# Altium schematic symbol library SamacSys.SchLib: 1281 symbols (part 4 of 13)
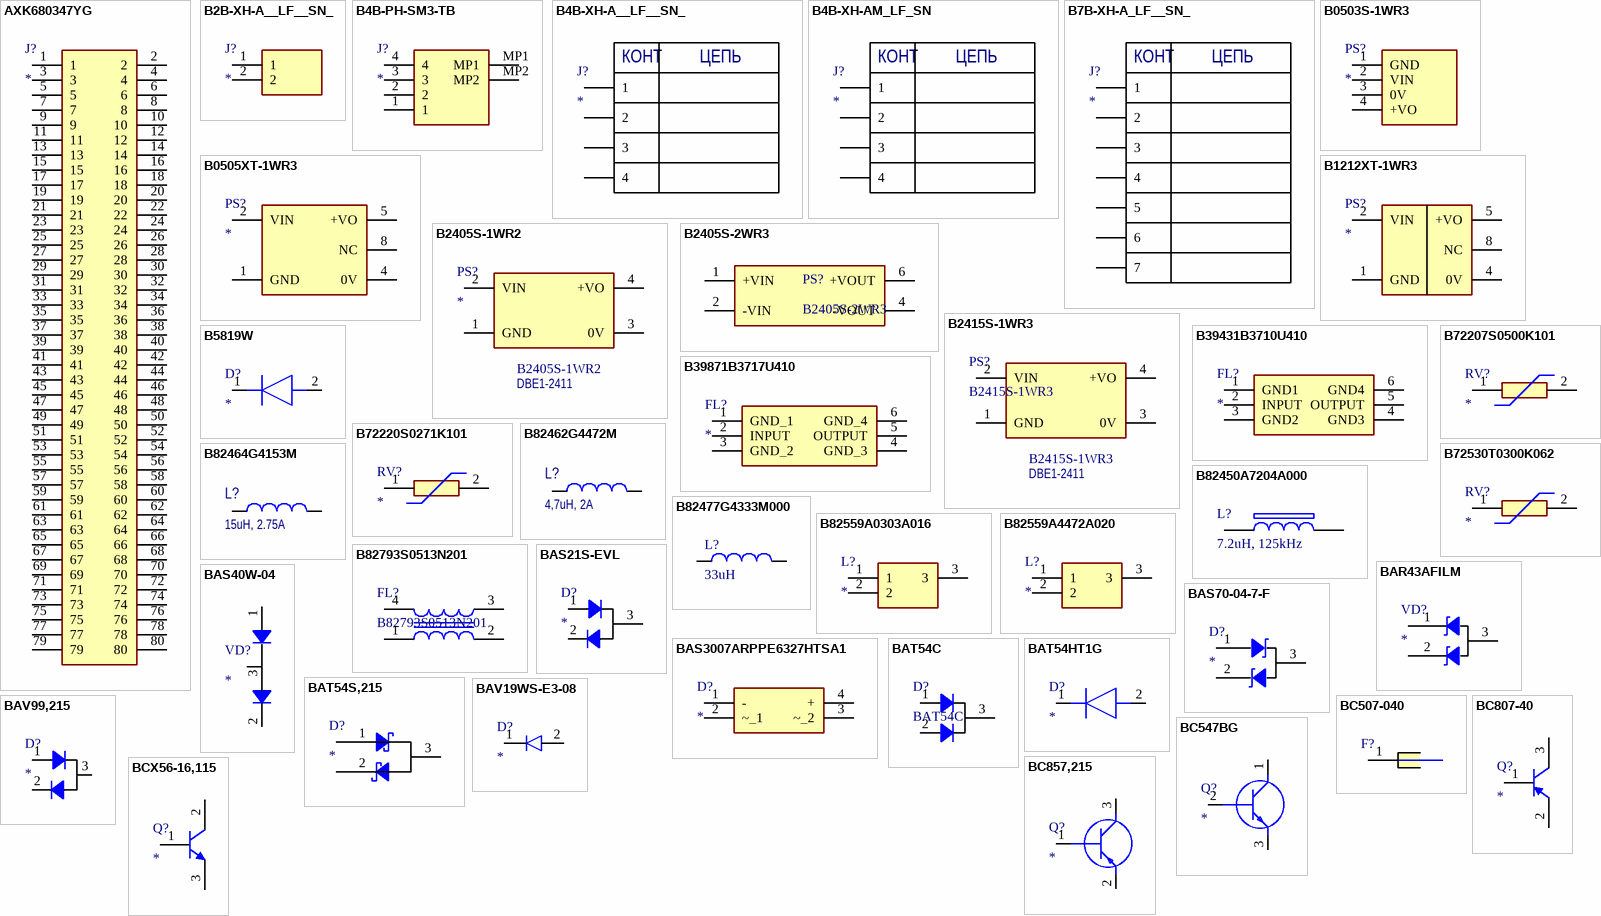
[diagram p50: symbols AXK680347YG to BCX56-16,115]

## BCX56-16,115
designator Q?
Transistor BJT NPN; Manufacturer_Name: Nexperia; Manufacturer_Part_Number: BCX56-16,115; Datasheet Link: https://assets.nexperia.com/documents/data-sheet/BCP56_BCX56_BC56PA.pdf; Height: 1.6mm; Mouser Part Number: 771-BCX56-16-T/R; Mouser Price/Stock: https://www.mouser.co.uk/ProductDetail/Nexperia/BCX56-16115?qs=me8TqzrmIYU4FJsNQLPFaA%3D%3D; Arrow Part Number: BCX56-16,115; Arrow Price/Stock: https://www.arrow.com/en/products/bcx56-16115/nexperia?utm_currency=USD&region=nac
footprint BCX5616115; pin to pad 2>2+4
pins: 1 B, 2 E, 3 C

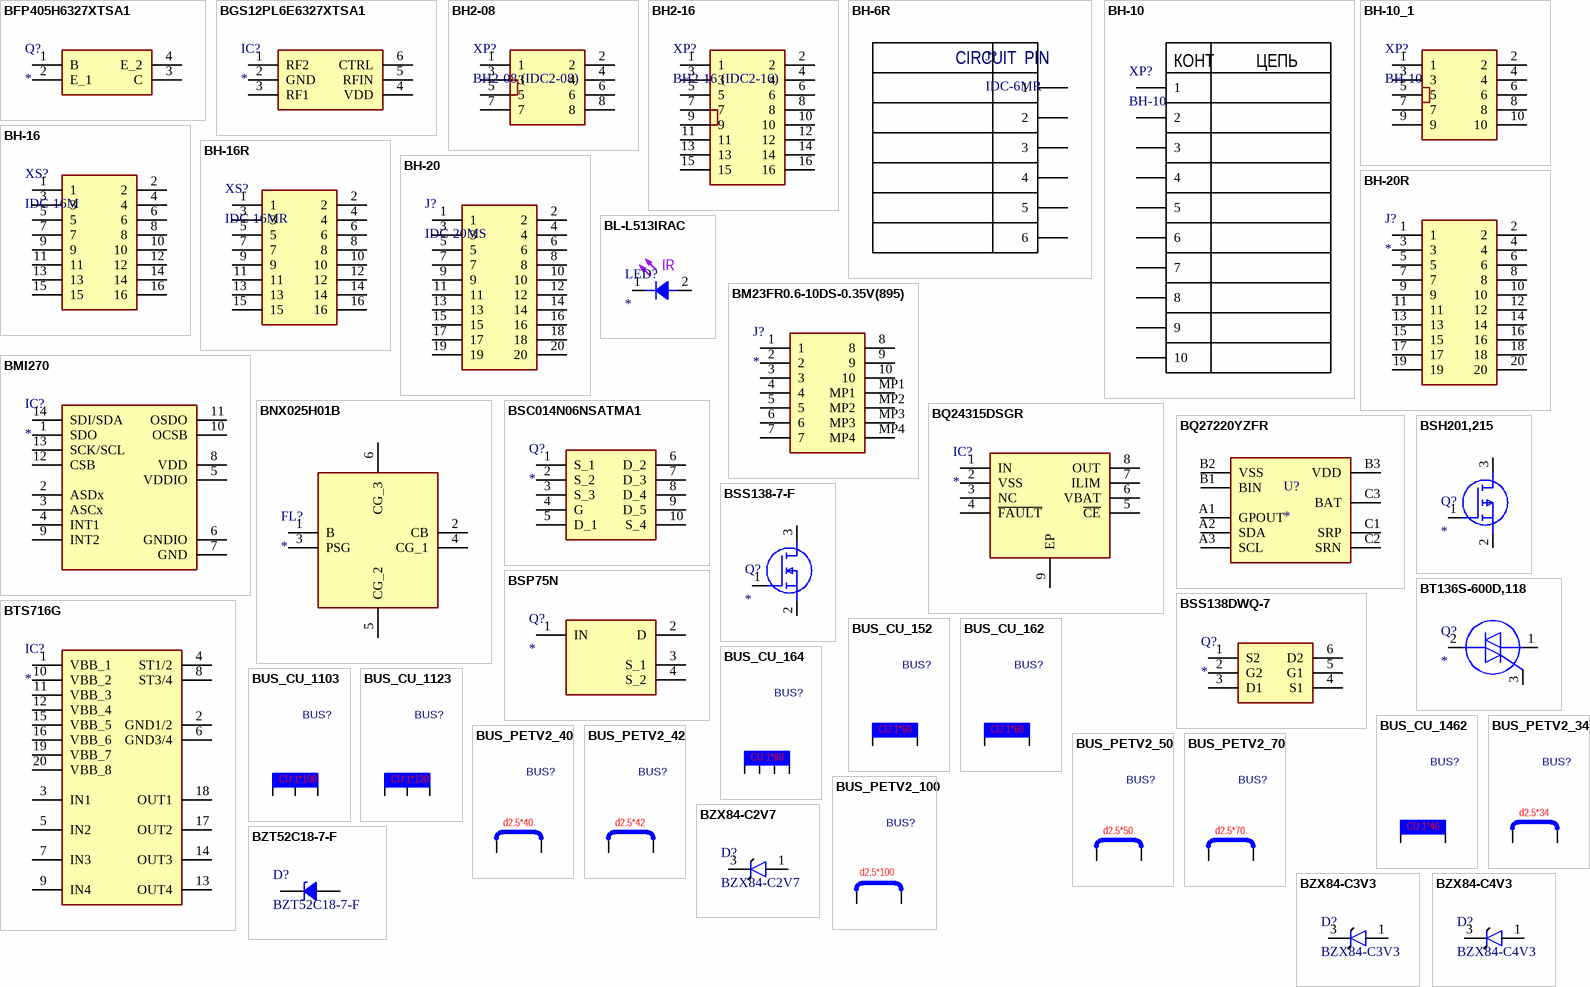
[diagram p10: symbols BFP405H6327XTSA1 to BZX84-C4V3]

## BFP405H6327XTSA1
designator Q?
Transistor BJT NPN; Manufacturer_Name: Infineon; Manufacturer_Part_Number: BFP405H6327XTSA1; Datasheet Link: https://www.infineon.com/dgdl/Infineon-BFP405-DS-v02_00-EN.pdf?fileId=5546d462689a790c01690f03150a390c; Height: 1mm; Mouser Part Number: 726-BFP405H6327XTSA1; Mouser Price/Stock: https://www.mouser.co.uk/ProductDetail/Infineon-Technologies/BFP405H6327XTSA1?qs=K00xGehIlju6mN4yU4aHPg%3D%3D; Arrow Part Number: BFP405H6327XTSA1; Arrow Price/Stock: https://www.arrow.com/en/products/bfp405h6327xtsa1/infineon-technologies-ag?region=nac
footprint BFP405H6327XTSA1
pins: 1 B, 2 E_1, 3 C, 4 E_2

## BGS12PL6E6327XTSA1
designator IC?
Integrated Circuit; Manufacturer_Name: Infineon; Manufacturer_Part_Number: BGS12PL6E6327XTSA1; Datasheet Link: https://4donline.ihs.com/images/VipMasterIC/IC/INFN/INFNS27431/INFNS27431-1.pdf?hkey=6D3A4C79FDBF58556ACFDE234799DDF0; Height: 0.32mm; Mouser Part Number: 726-BGS12PL6E6327XTS; Mouser Price/Stock: https://www.mouser.co.uk/ProductDetail/Infineon-Technologies/BGS12PL6E6327XTSA1?qs=J4%252BvTxtW28%252BQInE9vWfIng%3D%3D; Arrow Part Number: BGS12PL6E6327XTSA1; Arrow Price/Stock: https://www.arrow.com/en/products/bgs12pl6e6327xtsa1/infineon-technologies-ag?region=nac
footprint BGS12PL6E6327XTSA1
pins: 1 RF2, 2 GND, 3 RF1, 4 VDD, 5 RFIN, 6 CTRL

## BH2-08
designator XP?, comment BH2-08 (IDC2-08)
Connector; Manufacturer_Name: Connfly; Manufacturer_Part_Number: DS1014-08; Manufacturer_Part_Number_1: IDC2-08MS; Datasheet Link: https://static.chipdip.ru/lib/463/DOC002463525.pdf; System: Connector
footprint BH2-08 (Footprint not found)
pins: 1, 2, 3, 4, 5, 6, 7, 8

## BH2-16
designator XP?, comment BH2-16 (IDC2-16)
Connector; Manufacturer_Name: Connfly; Manufacturer_Part_Number: DS1014-16; Manufacturer_Part_Number_1: IDC2-16MS; Datasheet Link: https://static.chipdip.ru/lib/463/DOC002463525.pdf; System: Connector
footprint BH2-16 (Footprint not found)
pins: 1, 2, 3, 4, 5, 6, 7, 8, 9, 10, 11, 12, 13, 14, 15, 16

## BH-6R
designator J?, comment IDC-6MR
Connector IDC; Manufacturer_Name: Connfly; Datasheet Link: https://www.molex.com/pdm_docs/sd/901303106_sd.pdf
footprint BH-6R (IDC Connector, 6 pin)
pins: 1, 2, 3, 4, 5, 6
text: CIRCUIT; PIN

## BH-10
designator XP?
Connector; Manufacturer_Name: Connfly; Manufacturer_Part_Number: DS1013-10S; Manufacturer_Part_Number_1: IDC-10MS; Datasheet Link: https://static.chipdip.ru/lib/463/DOC002463525.pdf; System: Connector
footprint BH-10
pins: 1, 2, 3, 4, 5, 6, 7, 8, 9, 10
text: КОНТ; ЦЕПЬ

## BH-10_1
designator XP?, comment BH-10
Connector; Manufacturer_Name: Connfly; Manufacturer_Part_Number: DS1013-10S; Manufacturer_Part_Number_1: IDC-10MS; Datasheet Link: https://static.chipdip.ru/lib/463/DOC002463525.pdf; System: Connector
footprint BH-10
pins: 1, 2, 3, 4, 5, 6, 7, 8, 9, 10

## BH-16
designator XS?, comment IDC-16M
Connector; Manufacturer_Name: SAMTEC; Manufacturer_Part_Number: HTST-108-01-L-DV-P-TR; Datasheet Link: http://suddendocs.samtec.com/prints/htst-1xx-01-xx-dv-xx-xx-mkt.pdf; Mouser Part Number: 200-HTST10801LDVPTR; Mouser Price/Stock: https://www.mouser.co.uk/ProductDetail/Samtec/HTST-108-01-L-DV-P-TR?qs=Cqqh%252BS766wmBS1cbpEk87Q%3D%3D; Arrow Part Number: HTST-108-01-L-DV-P-TR; Arrow Price/Stock: https://www.arrow.com/en/products/htst-108-01-l-dv-p-tr/samtec?utm_currency=USD&region=nac
pins: 1, 2, 3, 4, 5, 6, 7, 8, 9, 10, 11, 12, 13, 14, 15, 16

## BH-16R
designator XS?, comment IDC-16MR
Connector; Manufacturer_Name: SAMTEC; Manufacturer_Part_Number: HTST-108-01-L-DV-P-TR; Datasheet Link: http://suddendocs.samtec.com/prints/htst-1xx-01-xx-dv-xx-xx-mkt.pdf; Mouser Part Number: 200-HTST10801LDVPTR; Mouser Price/Stock: https://www.mouser.co.uk/ProductDetail/Samtec/HTST-108-01-L-DV-P-TR?qs=Cqqh%252BS766wmBS1cbpEk87Q%3D%3D; Arrow Part Number: HTST-108-01-L-DV-P-TR; Arrow Price/Stock: https://www.arrow.com/en/products/htst-108-01-l-dv-p-tr/samtec?utm_currency=USD&region=nac
footprint BH-16R
pins: 1, 2, 3, 4, 5, 6, 7, 8, 9, 10, 11, 12, 13, 14, 15, 16

## BH-20
designator J?, comment IDC-20MS
Connector IDC; Manufacturer_Name: Connfly; Manufacturer_Part_Number: BH-20R; Datasheet Link: https://static.chipdip.ru/lib/463/DOC002463525.pdf; Height: 9.48mm
footprint SHDR20W69P254X254_2X10_3300X910X955P
pins: 1, 2, 3, 4, 5, 6, 7, 8, 9, 10, 11, 12, 13, 14, 15, 16, 17, 18, 19, 20

## BH-20R
designator J?
Connector; Manufacturer_Name: Connfly; Manufacturer_Part_Number: BH-20R; Datasheet Link: https://static.chipdip.ru/lib/463/DOC002463525.pdf; Height: 9.48mm
footprint SHDRRA20W69P254X254_2X10_3300X930X948P
pins: 1, 2, 3, 4, 5, 6, 7, 8, 9, 10, 11, 12, 13, 14, 15, 16, 17, 18, 19, 20

## BL-L513IRAC
designator LED?
LED, IR, 940nm, 5mm; Manufacturer_Name: Kingbright; Manufacturer_Part_Number: KA-3528SGC; Datasheet Link: https://componentsearchengine.com/Datasheets/2/KA-3528SGC.pdf; Height: 2.1mm; Mouser Part Number: N/A; Mouser Price/Stock: https://www.mouser.co.uk/ProductDetail/Kingbright/KA-3528SGC?qs=Kyi72x88zz13uqpLS2dkBg%3D%3D; Arrow Part Number: KA-3528SGC; Arrow Price/Stock: https://www.arrow.com/en/products/ka-3528sgc/kingbright
footprint LED_5mm
pins: 1 A, 2 K
text: IR

## BM23FR0.6-10DS-0.35V(895)
designator J?
Connector; Manufacturer_Name: Hirose; Manufacturer_Part_Number: BM23FR0.6-10DS-0.35V(895); Datasheet Link: https://www.hirose.com/product/download/?distributor=digikey&type=2d&lang=en&num=BM23FR0.6-10DS-0.35V(895); Height: 0.7mm; Mouser Part Number: 798-3FR0610DS035V895; Mouser Price/Stock: https://www.mouser.co.uk/ProductDetail/Hirose-Connector/BM23FR0.6-10DS-0.35V895?qs=YCa%2FAAYMW034C7%252BFnaCc7Q%3D%3D
footprint BM23FR0610DS035V895
pins: 1, 2, 3, 4, 5, 6, 7, 8, 9, 10, MP1, MP2, MP3, MP4

## BMI270
designator IC?
Integrated Circuit, IMU, 6-axis, smart, low-power; Manufacturer_Name: Bosch; Manufacturer_Part_Number: BMI270; Datasheet Link: https://www.elitan.ru/pdf/1/8/2/4/3/18243772.pdf; Height: 1.01mm
pins: 1 SDO, 2 ASDx, 3 ASCx, 4 INT1, 5 VDDIO, 6 GNDIO, 7 GND, 8 VDD, 9 INT2, 10 OCSB, 11 OSDO, 12 CSB, 13 SCK/SCL, 14 SDI/SDA

## BNX025H01B
designator FL?
Filter; Manufacturer_Name: Murata Electronics; Manufacturer_Part_Number: BNX025H01B; Datasheet Link: https://www.murata.com/products/productdata/8796778004510/QNFH9101.pdf?1571196607000; Height: 3.7mm; Mouser Part Number: 81-BNX025H01B; Mouser Price/Stock: https://www.mouser.co.uk/ProductDetail/Murata-Electronics/BNX025H01B?qs=WODUgbe%2FI%252BMwLM4TZxnKFQ%3D%3D; Arrow Part Number: BNX025H01B; Arrow Price/Stock: https://www.arrow.com/en/products/bnx025h01b/murata-manufacturing?utm_currency=USD&region=nac
footprint BNX025H01B
pins: 1 B, 2 CB, 3 PSG, 4 CG_1, 5 CG_2, 6 CG_3

## BQ24315DSGR
designator IC?
Integrated Circuit; Manufacturer_Name: Texas Instruments; Manufacturer_Part_Number: BQ24315DSGR; Datasheet Link: http://www.ti.com/lit/ds/symlink/bq24315.pdf?HQS=TI-null-null-digikeymode-df-pf-null-wwe&ts=1590126014085; Height: 0.8mm; Mouser Part Number: 595-BQ24315DSGR; Mouser Price/Stock: https://www.mouser.co.uk/ProductDetail/Texas-Instruments/BQ24315DSGR?qs=ZaMXuU%252B6JZZfiNL%2FrG%252BGIQ%3D%3D; Arrow Part Number: BQ24315DSGR; Arrow Price/Stock: https://www.arrow.com/en/products/bq24315dsgr/texas-instruments?region=nac
footprint SON50P200X200X80-9N
pins: 1 IN, 2 VSS, 3 NC, 4 ~{FAULT}, 5 ~{CE}, 6 VBAT, 7 ILIM, 8 OUT, 9 EP

## BQ27220YZFR
designator U?
Integrated Circuit; Manufacturer_Name: Texas Instruments; Manufacturer_Part_Number: BQ27220YZFR; Datasheet Link: http://www.ti.com/lit/ds/symlink/bq27220.pdf; Height: 0.625mm; Mouser Part Number: 595-BQ27220YZFR; Mouser Price/Stock: https://www.mouser.co.uk/ProductDetail/Texas-Instruments/BQ27220YZFR/?qs=dSktwyqbRaX%252B5G1xe9oNWw%3D%3D; Arrow Part Number: BQ27220YZFR; Arrow Price/Stock: https://www.arrow.com/en/products/bq27220yzfr/texas-instruments
footprint BGA9C50P3X3_158X162X62
pins: A1 GPOUT, A2 SDA, A3 SCL, B1 BIN, B2 VSS, B3 VDD, C1 SRP, C2 SRN, C3 BAT

## BSC014N06NSATMA1
designator Q?
MOSFET (N-Channel); Manufacturer_Name: Infineon; Manufacturer_Part_Number: BSC014N06NSATMA1; Datasheet Link: http://www.farnell.com/datasheets/1849651.html; Height: 1.1mm; Mouser Part Number: 726-BSC014N06NSATMA1; Mouser Price/Stock: https://www.mouser.co.uk/ProductDetail/Infineon-Technologies/BSC014N06NSATMA1?qs=K00xGehIljshgUA78G26tg%3D%3D; Arrow Part Number: BSC014N06NSATMA1; Arrow Price/Stock: https://www.arrow.com/en/products/bsc014n06nsatma1/infineon-technologies-ag?region=nac
footprint BSC010N04LS6ATMA1
pins: 1 S_1, 2 S_2, 3 S_3, 4 G, 5 D_1, 6 D_2, 7 D_3, 8 D_4, 9 D_5, 10 S_4

## BSH201,215
designator Q?
MOSFET (P-Channel); Manufacturer_Name: Nexperia; Manufacturer_Part_Number: BSH201,215; Datasheet Link: https://assets.nexperia.com/documents/data-sheet/BSH201.pdf; Height: 1.1mm; Mouser Part Number: 771-BSH201215; Mouser Price/Stock: https://www.mouser.co.uk/ProductDetail/Nexperia/BSH201215?qs=me8TqzrmIYX3a42fe63WaA%3D%3D; Arrow Part Number: BSH201,215; Arrow Price/Stock: https://www.arrow.com/en/products/bsh201215/nexperia?region=nac
footprint SOT95P230X110-3N
pins: 1 G, 2 S, 3 D

## BSP75N
designator Q?
Transistor; Manufacturer_Name: Infineon; Manufacturer_Part_Number: BSP75N; Datasheet Link: https://componentsearchengine.com/Datasheets/2/BSP75N.pdf; Height: 1.8mm; Mouser Part Number: 726-BSP75N; Mouser Price/Stock: https://www.mouser.co.uk/ProductDetail/Infineon-Technologies/BSP75N?qs=mzcOS1kGbgciYG9zcnO7wA%3D%3D; Arrow Part Number: BSP75N; Arrow Price/Stock: https://www.arrow.com/en/products/bsp75n/infineon-technologies-ag
footprint SOT230P700X180-4N
pins: 1 IN, 2 D, 3 S_1, 4 S_2

## BSS138-7-F
designator Q?
MOSFET (N-Channel); Manufacturer_Name: MULTICOMP; Manufacturer_Part_Number: BSS138-7-F; Datasheet Link: https://componentsearchengine.com/Datasheets/2/BSS138-7-F.pdf; Height: 1.2mm
footprint BSS1387F
pins: 1 G, 2 S, 3 D

## BSS138DWQ-7
designator Q?
MOSFET (N-Channel); Manufacturer_Name: Diodes Inc.; Manufacturer_Part_Number: BSS138DWQ-7; Datasheet Link: https://www.diodes.com/assets/Datasheets/BSS138DWQ.pdf; Height: 1.1mm; Mouser Part Number: 621-BSS138DWQ-7; Mouser Price/Stock: https://www.mouser.co.uk/ProductDetail/Diodes-Incorporated/BSS138DWQ-7?qs=nJRy1mI8RR9wz3YdMQOQIA%3D%3D; Arrow Part Number: BSS138DWQ-7; Arrow Price/Stock: https://www.arrow.com/en/products/bss138dwq-7/diodes-incorporated?region=nac
footprint SOT65P210X110-6N
pins: 1 S2, 2 G2, 3 D1, 4 S1, 5 G1, 6 D2

## BT136S-600D,118
designator Q?
Triac MT; Manufacturer_Name: WeEn Semiconductors; Manufacturer_Part_Number: BT136S-600D,118; Datasheet Link: https://datasheet.datasheetarchive.com/originals/distributors/Datasheets_SAMA/a0f56c27b61bfd9afc23b59193dcdf26.pdf; Height: 2mm; Mouser Part Number: 771-BT136S-600D/T3; Mouser Price/Stock: https://www.mouser.co.uk/ProductDetail/WeEn-Semiconductors/BT136S-600D118?qs=me8TqzrmIYV4bBAqsrM%2FiQ%3D%3D; Arrow Part Number: BT136S-600D,118; Arrow Price/Stock: https://www.arrow.com/en/products/bt136s-600d118/ween-semiconductors?region=nac
footprint BT136S600D118
pins: 1 MT1, 2 MT2, 3 G

## BTS716G
designator IC?
Integrated Circuit; Manufacturer_Name: Infineon; Manufacturer_Part_Number: BTS716G; Datasheet Link: https://componentsearchengine.com/Datasheets/2/BTS716G.pdf; Height: 2.65mm; Mouser Part Number: 726-BTS716G; Mouser Price/Stock: https://www.mouser.co.uk/ProductDetail/Infineon-Technologies/BTS716G?qs=MGskQgfwDzus89Wlyk6rrg%3D%3D
footprint SOIC127P1030X265-20N
pins: 1 VBB_1, 2 GND1/2, 3 IN1, 4 ST1/2, 5 IN2, 6 GND3/4, 7 IN3, 8 ST3/4, 9 IN4, 10 VBB_2, 11 VBB_3, 12 VBB_4, 13 OUT4, 14 OUT3, 15 VBB_5, 16 VBB_6, 17 OUT2, 18 OUT1, 19 VBB_7, 20 VBB_8

## BUS_CU_152
designator BUS?, comment Bus copper  (value not drawn)
Шина медная, тип 152, H=1мм L=50мм, 2 вывода; Manufacturer: {Manufacturer}; Reseller3: {Reseller3}; Reseller1: {Reseller1}; Tempcoeff: {Tempcoeff}; Reseller2: {Reseller2}; Tolerance: {Tolerance}; Value: {Value}; PowerVoltage: {PowerVoltage}; CatalogueCode: {CatalogueCode}; Case: {Case}
footprint CU_BUS_1x3x50_2pin (Copper bus 1x3x50mm 2pin)
pins: 1, 4
text: CU 1*50

## BUS_CU_162
designator BUS?, comment Bus copper  (value not drawn)
Шина медная, тип 162, H=1мм L=60мм, 2 вывода; Manufacturer: {Manufacturer}; Reseller3: {Reseller3}; Reseller1: {Reseller1}; Tempcoeff: {Tempcoeff}; Reseller2: {Reseller2}; Tolerance: {Tolerance}; Value: {Value}; PowerVoltage: {PowerVoltage}; CatalogueCode: {CatalogueCode}; Case: {Case}
footprint CU_BUS_1x3x60_2pin (Copper bus 1x3x60mm 2pin)
pins: 1, 4
text: CU 1*60

## BUS_CU_164
designator BUS?, comment Bus CU  (value not drawn)
Шина медная, тип 164, H=1мм L=60мм, 4 вывода; Manufacturer: {Manufacturer}; Reseller3: {Reseller3}; Reseller1: {Reseller1}; Tempcoeff: {Tempcoeff}; Reseller2: {Reseller2}; Tolerance: {Tolerance}; Value: {Value}; PowerVoltage: {PowerVoltage}; CatalogueCode: {CatalogueCode}; Case: {Case}
footprint CU_BUS_1x3x60_4pin (Footprint not found)
pins: 1, 2, 3, 4
text: CU 1*60

## BUS_CU_1103
designator BUS?, comment Bus copper  (value not drawn)
Шина медная, тип 1103, H=1мм L=100мм, 3 вывода 45+55; Manufacturer: {Manufacturer}; Reseller3: {Reseller3}; Reseller1: {Reseller1}; Tempcoeff: {Tempcoeff}; Reseller2: {Reseller2}; Tolerance: {Tolerance}; Value: {Value}; PowerVoltage: {PowerVoltage}; CatalogueCode: {CatalogueCode}; Case: {Case}
footprint CU_BUS_1x3x100_3pin (Copper bus 1x100mm, 3 pin)
pins: 1, 2, 3
text: CU 1*100

## BUS_CU_1123
designator BUS?, comment Bus copper  (value not drawn)
Шина медная, тип 1123, H=1мм L=120мм, 3 вывода; Manufacturer: {Manufacturer}; Reseller3: {Reseller3}; Reseller1: {Reseller1}; Tempcoeff: {Tempcoeff}; Reseller2: {Reseller2}; Tolerance: {Tolerance}; Value: {Value}; PowerVoltage: {PowerVoltage}; CatalogueCode: {CatalogueCode}; Case: {Case}
footprint CU_BUS_1x3x120_3pin (Copper bus 1x120mm, 3 pin)
pins: 1, 2, 3
text: CU 1*120

## BUS_CU_1462
designator BUS?, comment Bus copper  (value not drawn)
Шина медная, тип 1462, H=1мм L=46мм, 2 вывода; Manufacturer: {Manufacturer}; Reseller3: {Reseller3}; Reseller1: {Reseller1}; Tempcoeff: {Tempcoeff}; Reseller2: {Reseller2}; Tolerance: {Tolerance}; Value: {Value}; PowerVoltage: {PowerVoltage}; CatalogueCode: {CatalogueCode}; Case: {Case}
footprint CU_BUS_1x3x46_2pin (Copper bus 1x3x46mm 2pin)
pins: 1, 4
text: CU 1*46

## BUS_PETV2_34
designator BUS?, comment Bus wire  (value not drawn)
Провод ПЭТВ-2 d2,5мм, L=34мм; Manufacturer: {Manufacturer}; Reseller3: {Reseller3}; Reseller1: {Reseller1}; Tempcoeff: {Tempcoeff}; Reseller2: {Reseller2}; Tolerance: {Tolerance}; Value: {Value}; PowerVoltage: {PowerVoltage}; CatalogueCode: {CatalogueCode}; Case: {Case}
footprint WIRE_d2.4mmx34mm (ПЭТВ-2 d2.5mm х 34mm)
pins: 1, 4
text: d2.5*34

## BUS_PETV2_40
designator BUS?, comment Bus wire  (value not drawn)
Провод ПЭТВ-2 d2,5мм, L=40мм; Manufacturer: {Manufacturer}; Reseller3: {Reseller3}; Reseller1: {Reseller1}; Tempcoeff: {Tempcoeff}; Reseller2: {Reseller2}; Tolerance: {Tolerance}; Value: {Value}; PowerVoltage: {PowerVoltage}; CatalogueCode: {CatalogueCode}; Case: {Case}
footprint WIRE_d2.4mmx40mm (ПЭТВ-2 d2.5mm х 40mm)
pins: 1, 4
text: d2.5*40

## BUS_PETV2_42
designator BUS?, comment Bus wire  (value not drawn)
Провод ПЭТВ-2 d2,5мм, L=42мм; Manufacturer: {Manufacturer}; Reseller3: {Reseller3}; Reseller1: {Reseller1}; Tempcoeff: {Tempcoeff}; Reseller2: {Reseller2}; Tolerance: {Tolerance}; Value: {Value}; PowerVoltage: {PowerVoltage}; CatalogueCode: {CatalogueCode}; Case: {Case}
footprint WIRE_d2.4mmx42mm (Footprint not found)
pins: 1, 4
text: d2.5*42

## BUS_PETV2_50
designator BUS?, comment Bus wire  (value not drawn)
Провод ПЭТВ-2 d2,5мм, L=50мм; Manufacturer: {Manufacturer}; Reseller3: {Reseller3}; Reseller1: {Reseller1}; Tempcoeff: {Tempcoeff}; Reseller2: {Reseller2}; Tolerance: {Tolerance}; Value: {Value}; PowerVoltage: {PowerVoltage}; CatalogueCode: {CatalogueCode}; Case: {Case}
footprint WIRE_d2.4mmx50mm (Footprint not found)
pins: 1, 4
text: d2.5*50

## BUS_PETV2_70
designator BUS?, comment Bus wire  (value not drawn)
Провод ПЭТВ-2 d2,5мм, L=70мм; Manufacturer: {Manufacturer}; Reseller3: {Reseller3}; Reseller1: {Reseller1}; Tempcoeff: {Tempcoeff}; Reseller2: {Reseller2}; Tolerance: {Tolerance}; Value: {Value}; PowerVoltage: {PowerVoltage}; CatalogueCode: {CatalogueCode}; Case: {Case}
footprint WIRE_d2.4mmx70mm (ПЭТВ-2 d2.5mm х 70mm)
pins: 1, 4
text: d2.5*70

## BUS_PETV2_100
designator BUS?, comment Bus wire  (value not drawn)
Провод ПЭТВ-2 d2,5мм, 100мм; Manufacturer: {Manufacturer}; Reseller3: {Reseller3}; Reseller1: {Reseller1}; Tempcoeff: {Tempcoeff}; Reseller2: {Reseller2}; Tolerance: {Tolerance}; Value: {Value}; PowerVoltage: {PowerVoltage}; CatalogueCode: {CatalogueCode}; Case: {Case}
footprint WIRE_BUS_4mm x 100_2pin - duplicate (ВВГ 1х4 100mm 2pin)
pins: 1, 4
text: d2.5*100

## BZT52C18-7-F
designator D?
Zener Diode; Manufacturer_Name: Nexperia; Datasheet Link: https://assets.nexperia.com/documents/data-sheet/BZT52-B_SER.pdf; Height: 1.3mm; Manufacturer_Part_Number: BZT52C18-7-F; Mouser Part Number: 771-BZT52-B3V6X; Mouser Price/Stock: https://www.mouser.co.uk/ProductDetail/Nexperia/BZT52-B3V6X?qs=W0yvOO0ixfGYHfMgmHmlFg%3D%3D; Arrow Part Number: BZT52-B3V6X; Arrow Price/Stock: https://www.arrow.com/en/products/bzt52-b3v6x/nexperia?region=europe
footprint BZT52B3V6X
pins: 1, 2

## BZX84-C2V7
designator D?
Zener Diode SOT-23; Manufacturer_Name: onsemi; Datasheet Link: https://datasheet.datasheetarchive.com/originals/distributors/Datasheets_SAMA/149fc8ee07d4919a2a63bc6ced8896db.pdf; Height: 1.2mm; Manufacturer_Part_Number: BZX84-C2V7
footprint SOT95P240X120-3N
pins: 1 A, 3 K

## BZX84-C3V3
designator D?
Zener Diode SOT-23; Manufacturer_Name: onsemi; Datasheet Link: https://datasheet.datasheetarchive.com/originals/distributors/Datasheets_SAMA/149fc8ee07d4919a2a63bc6ced8896db.pdf; Height: 1.2mm; Manufacturer_Part_Number: BZX84-C3V3
footprint SOT95P240X120-3N
pins: 1 A, 3 K

## BZX84-C4V3
designator D?
Zener Diode SOT-23; Manufacturer_Name: onsemi; Datasheet Link: https://datasheet.datasheetarchive.com/originals/distributors/Datasheets_SAMA/149fc8ee07d4919a2a63bc6ced8896db.pdf; Height: 1.2mm; Manufacturer_Part_Number: BZX84-C4V3
footprint SOT95P240X120-3N
pins: 1 A, 3 K

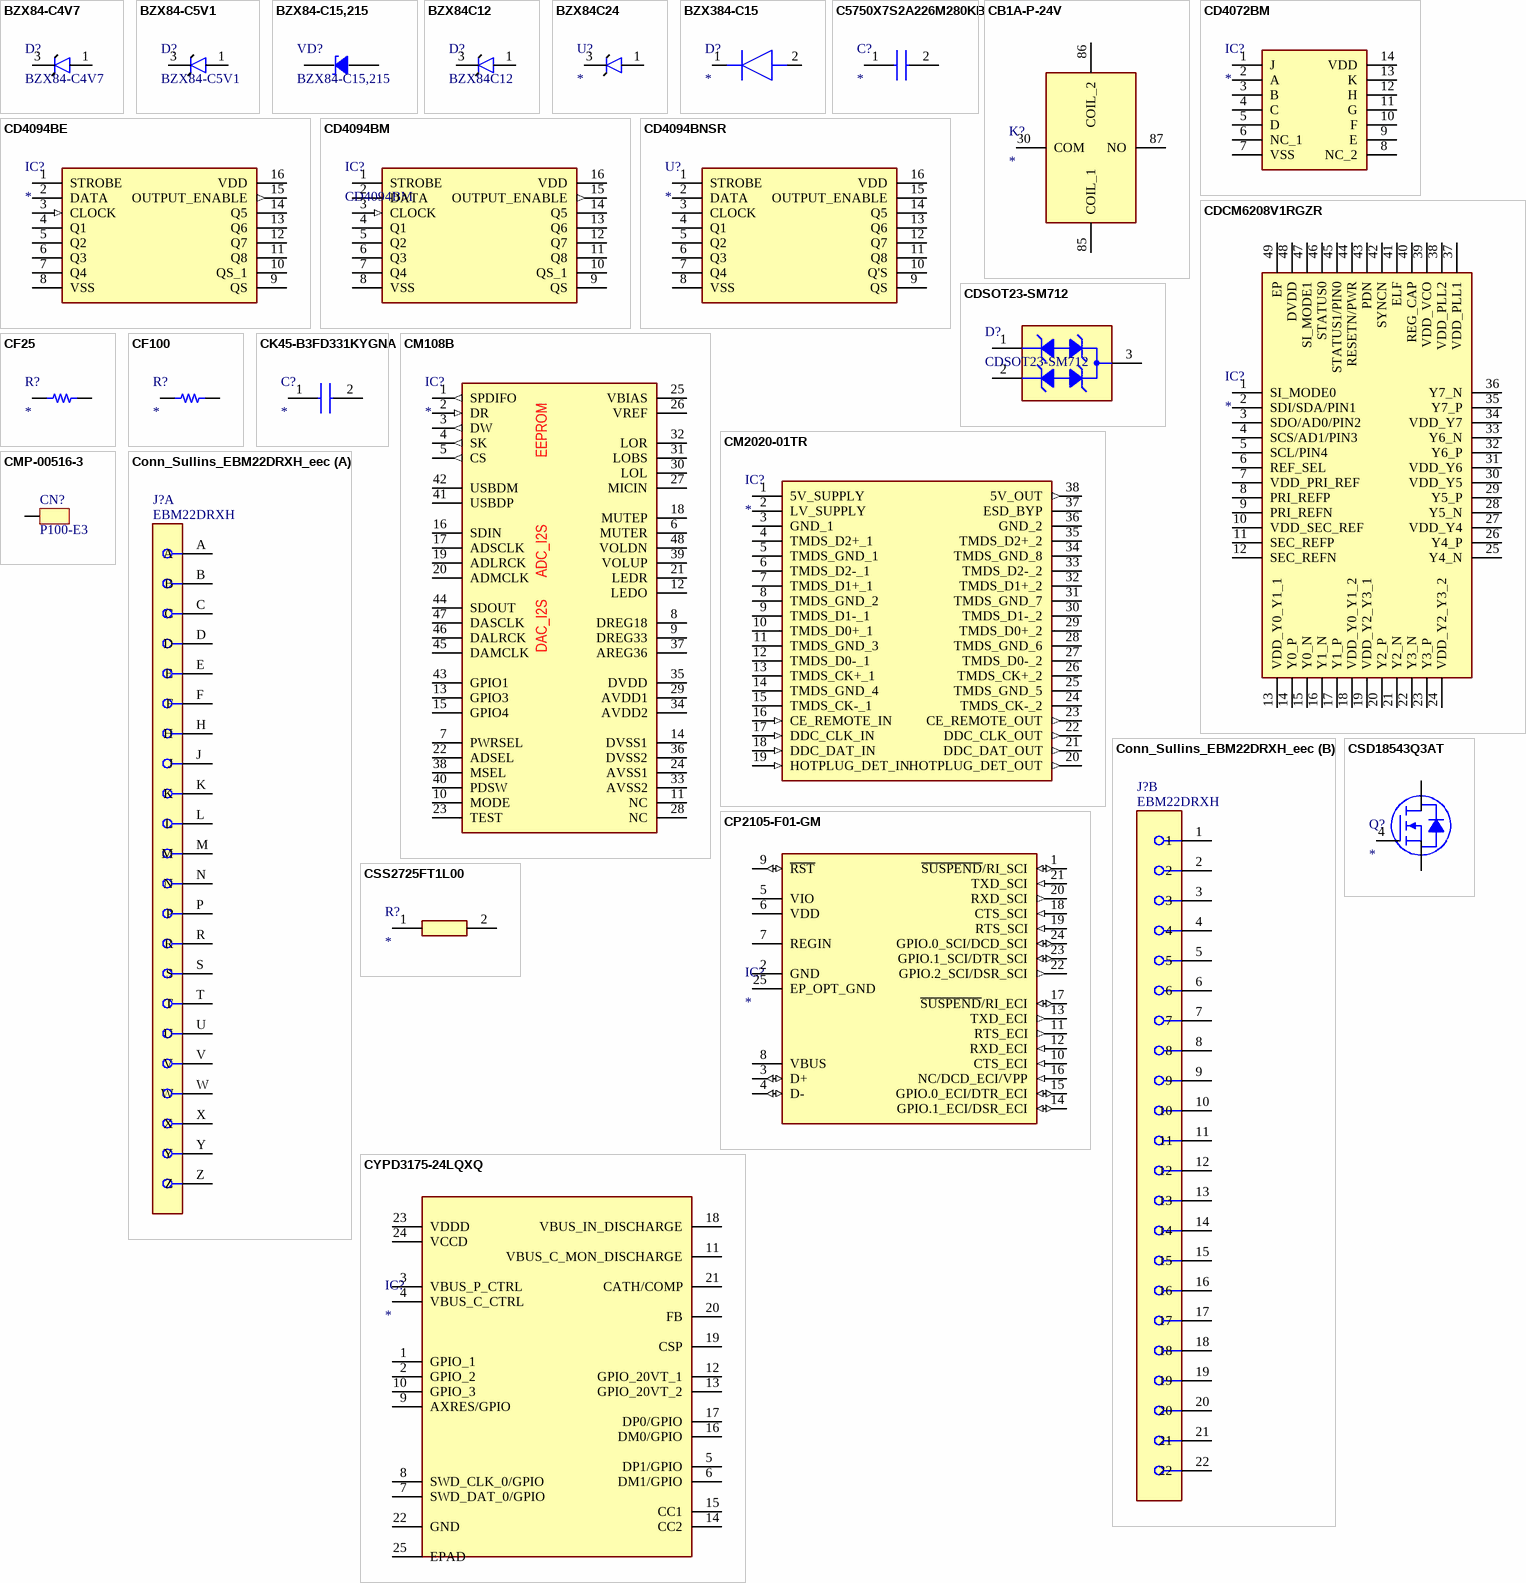
[diagram p11: symbols BZX84-C4V7 to CYPD3175-24LQXQ]

## BZX84-C4V7
designator D?
Zener Diode SOT-23; Manufacturer_Name: onsemi; Datasheet Link: https://datasheet.datasheetarchive.com/originals/distributors/Datasheets_SAMA/149fc8ee07d4919a2a63bc6ced8896db.pdf; Height: 1.2mm; Manufacturer_Part_Number: BZX84-C4V7
footprint SOT95P240X120-3N
pins: 1 A, 3 K

## BZX84-C5V1
designator D?
Zener Diode 5.1V SOT-23; Manufacturer_Name: onsemi; Manufacturer_Part_Number: BZX84-C4V7; Datasheet Link: https://datasheet.datasheetarchive.com/originals/distributors/Datasheets_SAMA/149fc8ee07d4919a2a63bc6ced8896db.pdf; Height: 1.2mm
footprint SOT95P240X120-3N
pins: 1 A, 3 K

## BZX84-C15,215
designator VD?
Zener Diode; Manufacturer_Name: Nexperia; Datasheet Link: https://assets.nexperia.com/documents/data-sheet/BZX84_SER.pdf; Height: 1.1mm; Manufacturer_Part_Number: BZX84-C15,215; Mouser Part Number: 771-BZX84-C15-T/R; Mouser Price/Stock: https://www.mouser.co.uk/ProductDetail/Nexperia/BZX84-C15215?qs=me8TqzrmIYUNpYubSzbEAw%3D%3D; Arrow Part Number: BZX84-C15,215; Arrow Price/Stock: https://www.arrow.com/en/products/bzx84-c15215/nexperia?utm_currency=USD&region=europe
footprint SOT95P230X110-3N
pins: 1 A, 3 K

## BZX84C12
designator D?
Zener Diode; Manufacturer_Name: onsemi; Datasheet Link: https://datasheet.datasheetarchive.com/originals/distributors/Datasheets_SAMA/149fc8ee07d4919a2a63bc6ced8896db.pdf; Height: 1.2mm; Manufacturer_Part_Number: BZX84C12; Mouser Part Number: 512-BZX84C12; Mouser Price/Stock: https://www.mouser.co.uk/ProductDetail/onsemi-Fairchild/BZX84C12?qs=SSucg2PyLi4Ie%2FgaadgNlQ%3D%3D
footprint SOT95P240X120-3N
pins: 1 A, 3 K

## BZX84C24
designator U?
Undefined or Miscellaneous; Manufacturer_Name: Diodes Incorporated; Manufacturer_Part_Number: BZX84C24; Datasheet Link: https://componentsearchengine.com/Datasheets/2/BZX84C24.pdf; Height: 1.1mm
footprint SOT96P240X110-3N
pins: 1 A, 3 K

## BZX384-C15
designator D?
Diode; Manufacturer_Name: Nexperia; Manufacturer_Part_Number: BZX384-C15; Datasheet Link: https://datasheet.datasheetarchive.com/originals/distributors/Datasheets-20/DSA-380056.pdf; Height: 1.1mm; Mouser Part Number: N/A; Mouser Price/Stock: https://www.mouser.co.uk/ProductDetail/Nexperia/BZX384-C15?qs=vHuUswq2%252BsyVzhp3pvRkog%3D%3D
footprint SOD2512X110N
pins: 1 K, 2 A

## C5750X7S2A226M280KB
designator C?
Capacitor; Manufacturer_Name: TDK; Manufacturer_Part_Number: C5750X7S2A226M280KB; Datasheet Link: https://product.tdk.com/system/files/dam/doc/product/capacitor/ceramic/mlcc/catalog/mlcc_commercial_midvoltage_en.pdf; Height: 2.5mm; Mouser Part Number: 810-C5750X7S2A226280; Mouser Price/Stock: https://www.mouser.co.uk/ProductDetail/TDK/C5750X7S2A226M280KB?qs=P1JMDcb91o5dC3qhq%2F1LOA%3D%3D; Arrow Part Number: C5750X7S2A226M280KB; Arrow Price/Stock: https://www.arrow.com/en/products/c5750x7s2a226m280kb/tdk?region=nac
footprint C5750_Commercial
pins: 1, 2

## CB1A-P-24V
designator K?
Relay or Contactor; Manufacturer_Name: Panasonic; Manufacturer_Part_Number: CB1A-P-24V; Datasheet Link: https://componentsearchengine.com/Datasheets/2/CB1A-P-24V.pdf; Height: 25mm; Mouser Part Number: 769-CB1A-P-24V; Mouser Price/Stock: https://www.mouser.co.uk/ProductDetail/Panasonic-Industrial-Devices/CB1A-P-24V?qs=mTeSeKeuVA4CvfEmRcg1Ww%3D%3D; Arrow Part Number: CB1A-P-24V; Arrow Price/Stock: https://www.arrow.com/en/products/cb1a-p-24v/panasonic
footprint CB1AP24V
pins: 30 COM, 85 COIL_1, 86 COIL_2, 87 NO

## CD4072BM
designator IC?
Integrated Circuit; Manufacturer_Name: Texas Instruments; Manufacturer_Part_Number: CD4072BM; Datasheet Link: http://www.ti.com/lit/gpn/cd4072b; Height: 1.75mm; Mouser Part Number: 595-CD4072BM; Mouser Price/Stock: https://www.mouser.co.uk/ProductDetail/Texas-Instruments/CD4072BM?qs=HTr%252BoA4jRile2ZuWAdK8PA%3D%3D; Arrow Part Number: CD4072BM; Arrow Price/Stock: https://www.arrow.com/en/products/cd4072bm/texas-instruments?region=nac
footprint SOIC127P600X175-14N
pins: 1 J, 2 A, 3 B, 4 C, 5 D, 6 NC_1, 7 VSS, 8 NC_2, 9 E, 10 F, 11 G, 12 H, 13 K, 14 VDD

## CD4094BE
designator IC?
Integrated Circuit; Manufacturer_Name: Texas Instruments; Manufacturer_Part_Number: CD4094BE; Datasheet Link: http://www.ti.com/lit/ds/symlink/cd4094b.pdf; Height: 5.08mm; Mouser Part Number: 595-CD4094BE; Mouser Price/Stock: https://www.mouser.co.uk/ProductDetail/Texas-Instruments/CD4094BE?qs=0OT4q4QBUTKXwSxJlj9MLw%3D%3D; Arrow Part Number: CD4094BE; Arrow Price/Stock: https://www.arrow.com/en/products/cd4094be/texas-instruments?region=nac
footprint DIP794W53P254L1930H508Q16N
pins: 1 STROBE, 2 DATA, 3 CLOCK (in), 4 Q1, 5 Q2, 6 Q3, 7 Q4, 8 VSS (power), 9 QS, 10 QS_1, 11 Q8, 12 Q7, 13 Q6, 14 Q5, 15 OUTPUT_ENABLE (out), 16 VDD (power)

## CD4094BM
designator IC?
Integrated Circuit, 8 SOP-16 Shift Registers ROHS; Manufacturer_Name: Texas Instruments; Manufacturer_Part_Number: CD4094BE; Datasheet Link: http://www.ti.com/lit/ds/symlink/cd4094b.pdf; Height: 5.08mm; Mouser Part Number: 595-CD4094BE; Mouser Price/Stock: https://www.mouser.co.uk/ProductDetail/Texas-Instruments/CD4094BE?qs=0OT4q4QBUTKXwSxJlj9MLw%3D%3D; Arrow Part Number: CD4094BE; Arrow Price/Stock: https://www.arrow.com/en/products/cd4094be/texas-instruments?region=nac
footprint SOIC127P600X175-16N
pins: 1 STROBE, 2 DATA, 3 CLOCK (in), 4 Q1, 5 Q2, 6 Q3, 7 Q4, 8 VSS (power), 9 QS, 10 QS_1, 11 Q8, 12 Q7, 13 Q6, 14 Q5, 15 OUTPUT_ENABLE (out), 16 VDD (power)

## CD4094BNSR
designator U?
Undefined or Miscellaneous; Manufacturer_Name: Texas Instruments; Manufacturer_Part_Number: CD4094BNSR; Datasheet Link: http://www.ti.com/lit/gpn/cd4094b; Height: 2mm; Mouser Part Number: 595-CD4094BNSR; Mouser Price/Stock: https://www.mouser.co.uk/ProductDetail/Texas-Instruments/CD4094BNSR?qs=LSR%252BNeaw%2FwDPtwxG7pPxXQ%3D%3D; Arrow Part Number: CD4094BNSR; Arrow Price/Stock: https://www.arrow.com/en/products/cd4094bnsr/texas-instruments?region=nac
footprint SOIC127P780X200-16N
pins: 1 STROBE, 2 DATA, 3 CLOCK, 4 Q1, 5 Q2, 6 Q3, 7 Q4, 8 VSS, 9 QS, 10 Q'S, 11 Q8, 12 Q7, 13 Q6, 14 Q5, 15 OUTPUT_ENABLE, 16 VDD

## CDCM6208V1RGZR
designator IC?
Integrated Circuit; Manufacturer_Name: Texas Instruments; Manufacturer_Part_Number: CDCM6208V1RGZR; Datasheet Link: http://www.ti.com/lit/gpn/cdcm6208; Height: 1mm; Mouser Part Number: 595-CDCM6208V1RGZR; Mouser Price/Stock: https://www.mouser.co.uk/ProductDetail/Texas-Instruments/CDCM6208V1RGZR?qs=Zv8nmyeoaKuA7Z6bIfs9ug%3D%3D; Arrow Part Number: CDCM6208V1RGZR; Arrow Price/Stock: https://www.arrow.com/en/products/cdcm6208v1rgzr/texas-instruments?region=nac
footprint QFN50P700X700X100-49N-D
pins: 1 SI_MODE0, 2 SDI/SDA/PIN1, 3 SDO/AD0/PIN2, 4 SCS/AD1/PIN3, 5 SCL/PIN4, 6 REF_SEL, 7 VDD_PRI_REF, 8 PRI_REFP, 9 PRI_REFN, 10 VDD_SEC_REF, 11 SEC_REFP, 12 SEC_REFN, 13 VDD_Y0_Y1_1, 14 Y0_P, 15 Y0_N, 16 Y1_N, 17 Y1_P, 18 VDD_Y0_Y1_2, 19 VDD_Y2_Y3_1, 20 Y2_P, 21 Y2_N, 22 Y3_N, 23 Y3_P, 24 VDD_Y2_Y3_2, 25 Y4_N, 26 Y4_P, 27 VDD_Y4, 28 Y5_N, 29 Y5_P, 30 VDD_Y5, 31 VDD_Y6, 32 Y6_P, 33 Y6_N, 34 VDD_Y7, 35 Y7_P, 36 Y7_N, 37 VDD_PLL1, 38 VDD_PLL2, 39 VDD_VCO, 40 REG_CAP, 41 ELF, 42 SYNCN, 43 PDN, 44 RESETN/PWR, 45 STATUS1/PIN0, 46 STATUS0, 47 SI_MODE1, 48 DVDD, 49 EP

## CDSOT23-SM712
designator D?
TVS Diode; Manufacturer_Name: Bourns; Datasheet Link: http://uk.rs-online.com/web/p/products/7673728; Height: 1.17mm; Manufacturer_Part_Number: CDSOT23-SM712; Mouser Part Number: 652-CDSOT23-SM712; Mouser Price/Stock: https://www.mouser.co.uk/ProductDetail/Bourns/CDSOT23-SM712?qs=FuI%252BOVLl4%2FLTY%2FGQ265RLA%3D%3D; Arrow Part Number: CDSOT23-SM712; Arrow Price/Stock: https://www.arrow.com/en/products/cdsot23-sm712/bourns?region=europe
footprint SOT95P230X117-3N
pins: 1 I/O 1, 2 GND, 3 I/O 2

## CF25
designator R?
Resistor, CF25, C1-4, 0.25W; Manufacturer_Name: HKR; Manufacturer_Part_Number: CF25-75K-J-TB-048-62
footprint RESAD1520W45L600D230
pins: 1, 2

## CF100
designator R?
Resistor, CF100, C1-4, 1W; Manufacturer_Name: HKR; Manufacturer_Part_Number: CF100-3K3-J-TB-070-62
footprint RESAD2700W60L1100D400
pins: 1, 2

## CK45-B3FD331KYGNA
designator C?
CAP CER RAD 330 pF, 3 kV, +10%; Manufacturer_Name: TDK; Manufacturer_Part_Number: CK45-B3FD331KYGNA; Datasheet Link: https://product.tdk.com/system/files/dam/doc/product/capacitor/ceramic/lead-disc/catalog/leaddisc_commercial_ck45_en.pdf; Height: 10.5mm; Mouser Part Number: 810-CK45-B3FD331KYGN; Mouser Price/Stock: https://www.mouser.co.uk/ProductDetail/TDK/CK45-B3FD331KYGNA?qs=eSfX1CQlHqqK1%2FVOgh0Mgg%3D%3D
footprint CK45B3FD331KYGNA
pins: 1, 2

## CM108B
designator IC?
USB Audio Single Chip; Manufacturer_Name: C-MEDIA ELECTRONICS INC; Manufacturer_Part_Number: CM108И; Datasheet Link: https://www.qsl.net/om3cph/sb/CM108_DataSheet_v1.6.pdf; Height: 1.6mm
footprint QFP50P900X900X160-48N
pins: 1 SPDIFO (out), 2 DR (in), 3 DW (out), 4 SK (out), 5 CS (out), 6 MUTER, 7 PWRSEL, 8 DREG18, 9 DREG33, 10 MODE, 11 NC, 12 LEDO, 13 GPIO3, 14 DVSS1, 15 GPIO4, 16 SDIN, 17 ADSCLK, 18 MUTEP, 19 ADLRCK, 20 ADMCLK, 21 LEDR, 22 ADSEL, 23 TEST, 24 AVSS1, 25 VBIAS, 26 VREF, 27 MICIN, 28 NC, 29 AVDD1, 30 LOL, 31 LOBS, 32 LOR, 33 AVSS2, 34 AVDD2, 35 DVDD, 36 DVSS2, 37 AREG36, 38 MSEL, 39 VOLUP, 40 PDSW, 41 USBDP, 42 USBDM, 43 GPIO1, 44 SDOUT, 45 DAMCLK, 46 DALRCK, 47 DASCLK, 48 VOLDN
text: EEPROM; ADC_I2S; DAC_I2S

## CM2020-01TR
designator IC?
Integrated Circuit; Manufacturer_Name: onsemi; Manufacturer_Part_Number: CM2020-01TR; Datasheet Link: https://www.onsemi.com/download/data-sheet/pdf/CM2020-01TR-D.PDF; Height: 1.2mm; Mouser Part Number: 748-CM2020-01TR; Mouser Price/Stock: https://www.mouser.co.uk/ProductDetail/onsemi/CM2020-01TR?qs=LMMkZCEv%2Ff2z1AaPwQ9vMQ%3D%3D; Arrow Part Number: CM2020-01TR; Arrow Price/Stock: https://www.arrow.com/en/products/cm2020-01tr/on-semiconductor
footprint SOP50P640X120-38N
pins: 1 5V_SUPPLY, 2 LV_SUPPLY, 3 GND_1 (power), 4 TMDS_D2+_1, 5 TMDS_GND_1 (power), 6 TMDS_D2-_1, 7 TMDS_D1+_1, 8 TMDS_GND_2 (power), 9 TMDS_D1-_1, 10 TMDS_D0+_1, 11 TMDS_GND_3 (power), 12 TMDS_D0-_1, 13 TMDS_CK+_1, 14 TMDS_GND_4 (power), 15 TMDS_CK-_1, 16 CE_REMOTE_IN (in), 17 DDC_CLK_IN (in), 18 DDC_DAT_IN (in), 19 HOTPLUG_DET_IN (in), 20 HOTPLUG_DET_OUT (out), 21 DDC_DAT_OUT (out), 22 DDC_CLK_OUT (out), 23 CE_REMOTE_OUT (out), 24 TMDS_CK-_2, 25 TMDS_GND_5 (power), 26 TMDS_CK+_2, 27 TMDS_D0-_2, 28 TMDS_GND_6 (power), 29 TMDS_D0+_2, 30 TMDS_D1-_2, 31 TMDS_GND_7 (power), 32 TMDS_D1+_2, 33 TMDS_D2-_2, 34 TMDS_GND_8 (power), 35 TMDS_D2+_2, 36 GND_2 (power), 37 ESD_BYP, 38 5V_OUT (out)

## CMP-00516-3
designator CN?, comment P100-E3
PLATED SPRING FINGER WITH PACKAG; Manufacturer: СКБ Элемент; Pin Count: 1; Component Name: P100-E3; Price: 0,0831; HelpURL: https://www.chipdip.ru/product0/8017711153; Temperature: -40°C ~ 85°C; PriceQty: 100; Part Number: P100-E3; PriceSupplier: https://www.chipdip.ru/product0/8017711153
footprint P100-E3
pins: 1

## Conn_Sullins_EBM22DRXH_eec
designator J?  Part Number: EBM22DRXH
CONN EDGE DUAL FMALE 44POS 0.156; Manufacturer: Sullins; Is Female: yes; helpURL: https://upverter.com/upn/revision/0edeb417ccf204af/; ComponentLink2Description: Datasheet; Temperature: -65°C to +125°C; Package: CONN_44_PTH; Supplier 2: Mouser; Price: 4.66154430886; Supplier 1: Digi-Key; ComponentLink1URL: https://upverter.com/upn/revision/0edeb417ccf204af/; Supplier Part Number 1: S3353-ND; ComponentLink1Description: Upverter; ComponentLink2URL: http://www.sullinscorp.com/drawings/65_____M_____DR____(DRX,DRF,_DRU,_DRP),_C10889-E.pdf; RoHS: TRUE; Temperature Range High: +125°C; Digikey Description: CONN EDGE DUAL FMALE 44POS 0.156; Digikey Part Number: S3353-ND; Lead Free: yes; Temperature Range Low: -65°C
footprint Sullins_EBM22DRXH_0
part A pins: A, B, C, D, E, F, H, J, K, L, M, N, P, R, S, T, U, V, W, X, Y, Z
part B pins: 1, 2, 3, 4, 5, 6, 7, 8, 9, 10, 11, 12, 13, 14, 15, 16, 17, 18, 19, 20, 21, 22

## CP2105-F01-GM
designator IC?
Integrated Circuit; Manufacturer_Name: Silicon Labs; Manufacturer_Part_Number: CP2105-F01-GM; Datasheet Link: https://componentsearchengine.com/Datasheets/1/CP2105-F01-GM.pdf; Height: 0.8mm; Mouser Part Number: 634-CP2105-F01-GM; Mouser Price/Stock: https://www.mouser.co.uk/ProductDetail/Silicon-Labs/CP2105-F01-GM?qs=j12q4iUN963tgVnLBX4aNA%3D%3D; Arrow Part Number: CP2105-F01-GM; Arrow Price/Stock: https://www.arrow.com/en/products/cp2105-f01-gm/silicon-labs?utm_currency=USD&region=nac
footprint QFN50P400X400X80-25N-D
pins: 1 ~{SUSPEND}/RI_SCI (io), 2 GND (power), 3 D+ (io), 4 D- (io), 5 VIO (power), 6 VDD (power), 7 REGIN (power), 8 VBUS (power), 9 ~{RST} (io), 10 CTS_ECI (in), 11 RTS_ECI (out), 12 RXD_ECI (in), 13 TXD_ECI (out), 14 GPIO.1_ECI/DSR_ECI (io), 15 GPIO.0_ECI/DTR_ECI (io), 16 NC/DCD_ECI/VPP (in), 17 ~{SUSPEND}/RI_ECI (io), 18 CTS_SCI (in), 19 RTS_SCI (in), 20 RXD_SCI (out), 21 TXD_SCI (in), 22 GPIO.2_SCI/DSR_SCI (out), 23 GPIO.1_SCI/DTR_SCI (io), 24 GPIO.0_SCI/DCD_SCI (io), 25 EP_OPT_GND (power)

## CSD18543Q3AT
designator Q?
MOSFET (N-Channel); Manufacturer_Name: Texas Instruments; Manufacturer_Part_Number: CSD18543Q3AT; Datasheet Link: http://www.ti.com/lit/gpn/csd18543q3a; Height: 0.9mm; Mouser Part Number: 595-CSD18543Q3AT; Mouser Price/Stock: https://www.mouser.co.uk/ProductDetail/Texas-Instruments/CSD18543Q3AT?qs=34RfhUjJmKepUVbl57nHwQ%3D%3D; Arrow Part Number: CSD18543Q3AT; Arrow Price/Stock: https://www.arrow.com/en/products/csd18543q3at/texas-instruments?region=nac
footprint CSD18543Q3AT
pins: 1 S, 2 S, 3 S, 4 G, 5 D, 6 D, 7 D, 8 D, 9 D

## CSS2725FT1L00
designator R?
Resistor; Manufacturer_Name: Stackpole Electronics; Manufacturer_Part_Number: CSS2725FT1L00; Datasheet Link: https://cs.seielect.com/catalog/SEI-CSS_CSSH.PDF; Height: 1.34mm; Arrow Part Number: CSS2725FT1L00; Arrow Price/Stock: https://www.arrow.com/en/products/css2725ft1l00/stackpole-electronics
footprint RESC6864X134N
pins: 1, 2

## CYPD3175-24LQXQ
designator IC?
Integrated Circuit; Manufacturer_Name: Cypress Semiconductor; Manufacturer_Part_Number: CYPD3175-24LQXQ; Datasheet Link: https://www.cypress.com/file/363381/download; Height: 0.6mm; Mouser Part Number: 727-CYPD3175-24LQXQ; Mouser Price/Stock: https://www.mouser.co.uk/ProductDetail/Cypress-Semiconductor/CYPD3175-24LQXQ?qs=1mbolxNpo8fiO8YziS703A%3D%3D; Arrow Part Number: CYPD3175-24LQXQ; Arrow Price/Stock: https://www.arrow.com/en/products/cypd3175-24lqxq/cypress-semiconductor
footprint QFN50P400X400X60-25N-D
pins: 1 GPIO_1, 2 GPIO_2, 3 VBUS_P_CTRL, 4 VBUS_C_CTRL, 5 DP1/GPIO, 6 DM1/GPIO, 7 SWD_DAT_0/GPIO, 8 SWD_CLK_0/GPIO, 9 AXRES/GPIO, 10 GPIO_3, 11 VBUS_C_MON_DISCHARGE, 12 GPIO_20VT_1, 13 GPIO_20VT_2, 14 CC2, 15 CC1, 16 DM0/GPIO, 17 DP0/GPIO, 18 VBUS_IN_DISCHARGE, 19 CSP, 20 FB, 21 CATH/COMP, 22 GND, 23 VDDD, 24 VCCD, 25 EPAD

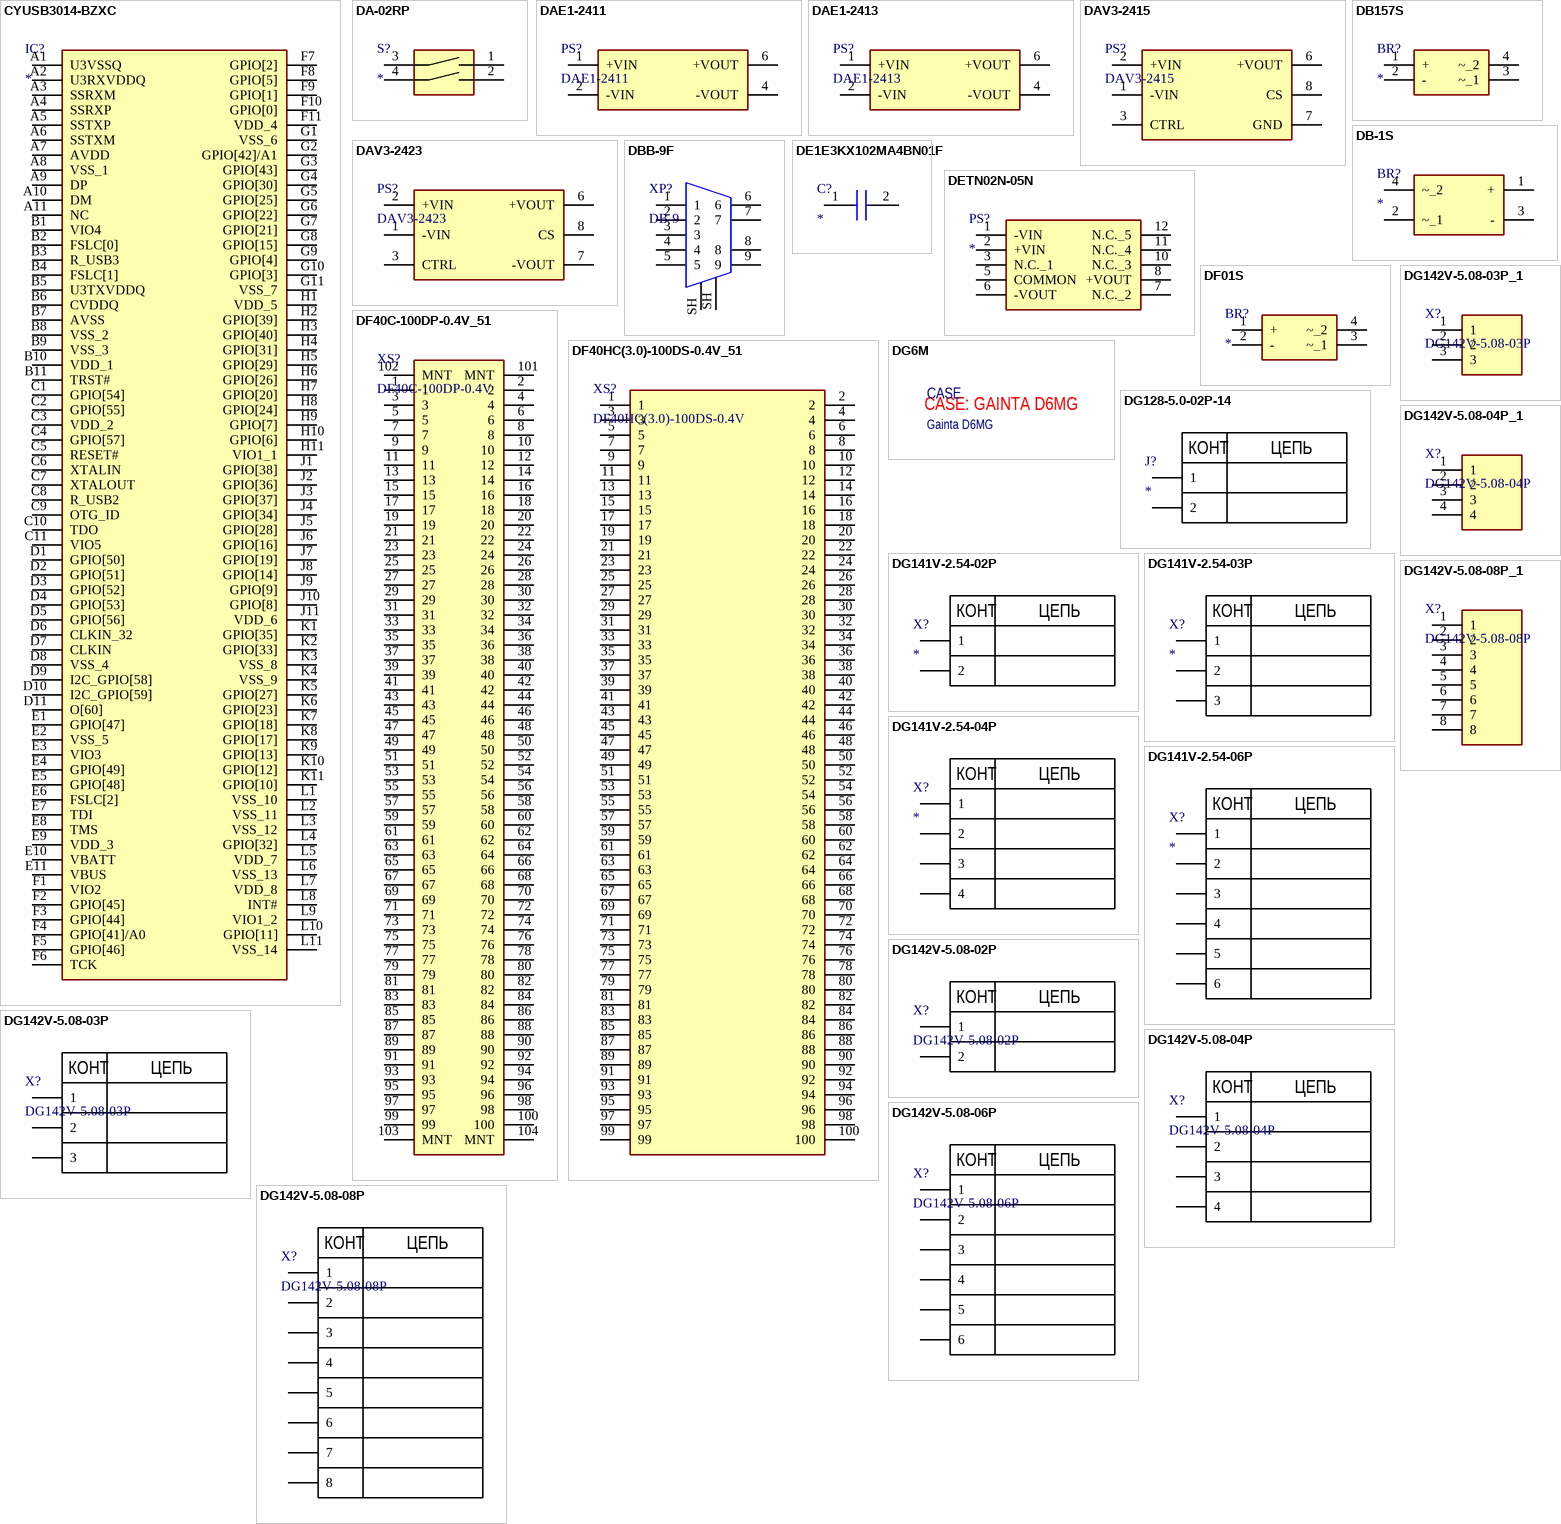
[diagram p12: symbols CYUSB3014-BZXC to DG142V-5.08-08P_1]

## CYUSB3014-BZXC
designator IC?
Integrated Circuit; Manufacturer_Name: Infineon; Manufacturer_Part_Number: CYUSB3014-BZXC; Datasheet Link: https://www.infineon.com/dgdl/Infineon-CYUSB301X_CYUSB201X_EZ-USB_FX3_SUPERSPEED_USB_CONTROLLER-DataSheet-v01_00-EN.pdf?fileId=8ac78c8c7d0d8da4017d0eca1e7442aa; Height: 1.2mm; Mouser Part Number: 727-CYUSB3014-BZXC; Mouser Price/Stock: https://www.mouser.co.uk/ProductDetail/Infineon-Technologies/CYUSB3014-BZXC?qs=xP2cAaN2A3Wt%252BQariFLwRg%3D%3D; Arrow Part Number: CYUSB3014-BZXC; Arrow Price/Stock: https://www.arrow.com/en/products/cyusb3014-bzxc/infineon-technologies-ag?utm_currency=USD&region=nac
footprint BGA121C80P11X11_1000X1000X120
pins: A1 U3VSSQ, A2 U3RXVDDQ, A3 SSRXM, A4 SSRXP, A5 SSTXP, A6 SSTXM, A7 AVDD, A8 VSS_1, A9 DP, A10 DM, A11 NC, B1 VIO4, B2 FSLC[0], B3 R_USB3, B4 FSLC[1], B5 U3TXVDDQ, B6 CVDDQ, B7 AVSS, B8 VSS_2, B9 VSS_3, B10 VDD_1, B11 TRST#, C1 GPIO[54], C2 GPIO[55], C3 VDD_2, C4 GPIO[57], C5 RESET#, C6 XTALIN, C7 XTALOUT, C8 R_USB2, C9 OTG_ID, C10 TDO, C11 VIO5, D1 GPIO[50], D2 GPIO[51], D3 GPIO[52], D4 GPIO[53], D5 GPIO[56], D6 CLKIN_32, D7 CLKIN, D8 VSS_4, D9 I2C_GPIO[58], D10 I2C_GPIO[59], D11 O[60], E1 GPIO[47], E2 VSS_5, E3 VIO3, E4 GPIO[49], E5 GPIO[48], E6 FSLC[2], E7 TDI, E8 TMS, E9 VDD_3, E10 VBATT, E11 VBUS, F1 VIO2, F2 GPIO[45], F3 GPIO[44], F4 GPIO[41]/A0, F5 GPIO[46], F6 TCK, F7 GPIO[2], F8 GPIO[5], F9 GPIO[1], F10 GPIO[0], F11 VDD_4, G1 VSS_6, G2 GPIO[42]/A1, G3 GPIO[43], G4 GPIO[30], G5 GPIO[25], G6 GPIO[22], G7 GPIO[21], G8 GPIO[15], G9 GPIO[4], G10 GPIO[3], G11 VSS_7, H1 VDD_5, H2 GPIO[39], H3 GPIO[40], H4 GPIO[31], H5 GPIO[29], H6 GPIO[26], H7 GPIO[20], H8 GPIO[24], H9 GPIO[7], H10 GPIO[6], H11 VIO1_1, J1 GPIO[38], J2 GPIO[36], J3 GPIO[37], J4 GPIO[34], J5 GPIO[28], J6 GPIO[16], J7 GPIO[19], J8 GPIO[14], J9 GPIO[9], J10 GPIO[8], J11 VDD_6, K1 GPIO[35], K2 GPIO[33], K3 VSS_8, K4 VSS_9, K5 GPIO[27], K6 GPIO[23], K7 GPIO[18], K8 GPIO[17], K9 GPIO[13], K10 GPIO[12], K11 GPIO[10], L1 VSS_10, L2 VSS_11, L3 VSS_12, L4 GPIO[32], L5 VDD_7, L6 VSS_13, L7 VDD_8, L8 INT#, L9 VIO1_2, L10 GPIO[11], L11 VSS_14

## DA-02RP
designator S?
DIP Switch, 2P; Manufacturer_Name: XKB Connectivity; Manufacturer_Part_Number: DA-02RP; Datasheet Link: http://www.helloxkb.com/public/images/pdf/DA-XX-X-X.pdf; Height: 10.1mm
footprint DA02RP
pins: 1 NO_1, 2 NO_2, 3 COM_1, 4 COM_2

## DAE1-2411
designator PS?
Power Supply, DC-DC; VIN: 24V(21.6~26.4)V; VOUT: 5V; CRNT: 200mA; Manufacturer: PAIRUI; Datasheet Link: https://static.chipdip.ru/lib/143/DOC013143083.pdf; Height: 10.45mm; Part Number: DAE1-2411
footprint PAIRUI_DAE1
pins: 1 +VIN, 2 -VIN, 4 -VOUT, 6 +VOUT

## DAE1-2413
designator PS?
Power Supply, DC-DC; VIN: 24V(21.6~26.4)V; VOUT: 12V; CRNT: 83mA; Manufacturer: PAIRUI; Datasheet Link: https://static.chipdip.ru/lib/143/DOC013143083.pdf; Height: 10.45mm; Part Number: DAE1-2413
footprint PAIRUI_DAE1
pins: 1 +VIN, 2 -VIN, 4 -VOUT, 6 +VOUT

## DAV3-2415
designator PS?
Power Supply, DCDC, In 18-36V, Out 24V 125mA; Manufacturer_Name: Pairui; Datasheet Link: https://static.chipdip.ru/lib/226/DOC013226371.pdf; Height: 10.45mm; Manufacturer_Part_Number: DAV3-2415
footprint PAIRUI_DAV3-2415
pins: 1 -VIN, 2 +VIN, 3 CTRL, 6 +VOUT, 7 GND, 8 CS

## DAV3-2423
designator PS?
Power Supply, DCDC, In 18-36V, Out +-12V 125mA; Manufacturer_Name: Pairui; Manufacturer_Part_Number: DAV3-2415; Datasheet Link: https://static.chipdip.ru/lib/226/DOC013226371.pdf; Height: 10.45mm
footprint PAIRUI_DAV3-2415
pins: 1 -VIN, 2 +VIN, 3 CTRL, 6 +VOUT, 7 -VOUT, 8 CS

## DB157S
designator BR?
Bridge Rectifier; Manufacturer_Name: Rectron; Manufacturer_Part_Number: DB157S; Datasheet Link: https://pdf1.alldatasheet.com/datasheet-pdf/view/35526/RECTRON/DB157S.html; Height: 3.73mm; Mouser Part Number: 583-DB157S; Mouser Price/Stock: https://www.mouser.co.uk/ProductDetail/Rectron/DB157S?qs=7pEAo90IqNGQUbpKlezu%252BA%3D%3D; Arrow Part Number: DB157S; Arrow Price/Stock: https://www.arrow.com/en/products/db157s/rectron?region=nac
footprint SOP510P990X373-4N
pins: 1 +, 2 -, 3 ~_1, 4 ~_2

## DB-1S
designator BR?
Bridge Rectifier; Manufacturer_Part_Number: DB-1S; Datasheet Link: https://www.diodes.com/assets/Datasheets/ABS210.pdf; Height: 1.7mm
footprint ABS21013
pins: 1 +, 2 ~_1, 3 -, 4 ~_2

## DBB-9F
designator XP?, comment DB-9
Connector, DB-9, PCB Vertical; Manufacturer_Name: Connfly; Manufacturer_Part_Number: DBB-9F (DS1034-09F); Datasheet Link: https://static.chipdip.ru/lib/761/DOC000761659.pdf; System: Connector
footprint DBB-9F (Footprint not found)
pins: 1, 2, 3, 4, 5, 6, 7, 8, 9, SH 9, SH 10

## DE1E3KX102MA4BN01F
designator C?
CAP CER 1 nF, 250V, ±20%; Manufacturer_Name: Murata Electronics; Manufacturer_Part_Number: DE1E3KX102MA4BN01F; Datasheet Link: https://componentsearchengine.com/Datasheets/2/DE1E3KX102MA4BN01F.pdf; Height: 10mm; Mouser Part Number: 81-DE1E3KX102MA4BN1F; Mouser Price/Stock: https://www.mouser.co.uk/ProductDetail/Murata-Electronics/DE1E3KX102MA4BN01F?qs=P0q0QPXdz8CkCUbt0WrKjA%3D%3D; Arrow Part Number: DE1E3KX102MA4BN01F; Arrow Price/Stock: https://www.arrow.com/en/products/de1e3kx102ma4bn01f/murata-manufacturing
footprint DE1E3KX102MA4BN01F
pins: 1, 2

## DETN02N-05N
designator PS?
Power Supply; Manufacturer_Name: Mean Well; Manufacturer_Part_Number: DETN02N-05N; Datasheet Link: https://www.meanwell.com/webapp/product/search.aspx?prod=DETN02-N; Height: 9.6mm
footprint DETN02N05N
pins: 1 -VIN, 2 +VIN, 3 N.C._1, 5 COMMON, 6 -VOUT, 7 N.C._2, 8 +VOUT, 10 N.C._3, 11 N.C._4, 12 N.C._5

## DF01S
designator BR?
Bridge Rectifier; Manufacturer_Name: Vishay; Manufacturer_Part_Number: DF01SA-E3/45; Datasheet Link: https://www.arrow.com/en/products/df01sa-e345/vishay; Height: 3.63mm; Mouser Part Number: 625-DF01SA-E3; Mouser Price/Stock: https://www.mouser.co.uk/ProductDetail/Vishay-General-Semiconductor/DF01SA-E3-45?qs=lTgc38YOCCrpaTKQDA1AVA%3D%3D; Arrow Part Number: DF01SA-E3/45; Arrow Price/Stock: https://www.arrow.com/en/products/df01sa-e345/vishay?region=nac
footprint SOP510P1005X363-4N
pins: 1 +, 2 -, 3 ~_1, 4 ~_2

## DF40C-100DP-0.4V_51
designator XS?, comment DF40C-100DP-0.4V
CONN 0.4mm Pitch, BRD-to-BRD or BRD-to-FPC, HEADER; Manufacturer_Name: Hirose; Manufacturer_Part_Number: DF40C-100DP-0.4V(51); Datasheet Link: https://datasheet.datasheetarchive.com/originals/distributors/SFDatasheet-7/sf-000141247.pdf; Height: 1mm; Mouser Part Number: 798-DF40C100DP0.4V51; Mouser Price/Stock: https://www.mouser.co.uk/ProductDetail/Hirose-Connector/DF40C-100DP-0.4V51?qs=eDUdFcBPps2TxbrE27%2Ff2A%3D%3D; Arrow Part Number: DF40C-100DP-0.4V(51); Arrow Price/Stock: https://www.arrow.com/en/products/df40c-100dp-0.4v-51/hirose-electric
footprint DF40C100DP04V51
footprint DF40C100DP04V51_CM4_L
footprint DF40C100DP04V51_CM4_R
pins: 1, 2, 3, 4, 5, 6, 7, 8, 9, 10, 11, 12, 13, 14, 15, 16, 17, 18, 19, 20, 21, 22, 23, 24, 25, 26, 27, 28, 29, 30, 31, 32, 33, 34, 35, 36, 37, 38, 39, 40, 41, 42, 43, 44, 45, 46, 47, 48, 49, 50, 51, 52, 53, 54, 55, 56, 57, 58, 59, 60, 61, 62, 63, 64, 65, 66, 67, 68, 69, 70, 71, 72, 73, 74, 75, 76, 77, 78, 79, 80, 81, 82, 83, 84, 85, 86, 87, 88, 89, 90, 91, 92, 93, 94, 95, 96, 97, 98, 99, 100, 101 MNT, 102 MNT, 103 MNT, 104 MNT

## DF40HC(3.0)-100DS-0.4V_51
designator XS?, comment DF40HC(3.0)-100DS-0.4V
CONN 0.4mm Pitch, 3.0mm Height, BRD-to-BRD or BRD-to-FPC, RECEPTACLE; Manufacturer_Name: Hirose; Manufacturer_Part_Number: DF40HC(3.0)-100DS-0.4V(51; Datasheet Link: https://componentsearchengine.com/Datasheets/1/DF40HC(3.0)-100DS-0.4V(51.pdf; Height: 3.05mm; Mouser Part Number: 798-DF40HC30100DS451; Mouser Price/Stock: https://www.mouser.co.uk/ProductDetail/Hirose-Connector/DF40HC3.0-100DS-0.4V51?qs=%252BAZVS4b%2FkgIV%252B3vHYy2dCA%3D%3D; Arrow Part Number: DF40HC(3.0)-100DS-0.4V(51; Arrow Price/Stock: https://www.arrow.com/en/products/df40hc-3.0-100ds-0.4v-51/hirose-electric
footprint DF40HC30100DS04V51
footprint DF40HC(30)100DS04V_CM4_R
footprint DF40HC(30)100DS04V_CM4_L
pins: 1, 2, 3, 4, 5, 6, 7, 8, 9, 10, 11, 12, 13, 14, 15, 16, 17, 18, 19, 20, 21, 22, 23, 24, 25, 26, 27, 28, 29, 30, 31, 32, 33, 34, 35, 36, 37, 38, 39, 40, 41, 42, 43, 44, 45, 46, 47, 48, 49, 50, 51, 52, 53, 54, 55, 56, 57, 58, 59, 60, 61, 62, 63, 64, 65, 66, 67, 68, 69, 70, 71, 72, 73, 74, 75, 76, 77, 78, 79, 80, 81, 82, 83, 84, 85, 86, 87, 88, 89, 90, 91, 92, 93, 94, 95, 96, 97, 98, 99, 100

## DG6M
designator CASE, comment Gainta D6MG  (mechanical)
Plastic DIN-rail case; Value: Gainta D6MG; Manufacturer: Gainta; Part Number: D6MG; ComponentLink1Description: New link; ComponentLink1URL: https://static.chipdip.ru/lib/920/DOC023920435.pdf
text: CASE: GAINTA D6MG

## DG128-5.0-02P-14
designator J?
Connector; Manufacturer_Name: Degson; Manufacturer_Part_Number: DG128-5.0-02P-14; Datasheet Link: https://www.degson.com/index.php?a=downloadFile&id=1097383&name=%27ZmlsZTQ=%27&lang=en; Height: 14.26mm
footprint DG128-5.0-02P-14
pins: 1, 2
text: КОНТ; ЦЕПЬ

## DG141V-2.54-02P
designator X?
Connector; Manufacturer_Name: DEGSON; Manufacturer_Part_Number: DG141V-2.54-02P; Datasheet Link: file:///C:/Users/Golubev/Downloads/DG141V-2.54-XXP-1Y-00A(H)-l.pdf
footprint DG141V-02P
pins: 1, 2
text: КОНТ; ЦЕПЬ

## DG141V-2.54-03P
designator X?
Connector; Manufacturer_Name: DEGSON; Manufacturer_Part_Number: DG141V-2.54-04P; Datasheet Link: file:///C:/Users/Golubev/Downloads/DG141V-2.54-XXP-1Y-00A(H)-l.pdf
footprint DG141V-04P
pins: 1, 2, 3
text: КОНТ; ЦЕПЬ

## DG141V-2.54-04P
designator X?
Connector; Manufacturer_Name: DEGSON; Manufacturer_Part_Number: DG141V-2.54-04P; Datasheet Link: file:///C:/Users/Golubev/Downloads/DG141V-2.54-XXP-1Y-00A(H)-l.pdf
footprint DG141V-04P
pins: 1, 2, 3, 4
text: КОНТ; ЦЕПЬ

## DG141V-2.54-06P
designator X?
Connector; Manufacturer_Name: DEGSON; Manufacturer_Part_Number: DG141V-2.54-06P; Datasheet Link: file:///C:/Users/Golubev/Downloads/DG141V-2.54-XXP-1Y-00A(H)-l.pdf
footprint DG141V-06P
pins: 1, 2, 3, 4, 5, 6
text: КОНТ; ЦЕПЬ

## DG142V-5.08-02P
designator X?
Connector; Manufacturer_Name: Degson; Datasheet Link: https://oss.degson.com/upload/pdf/20211003/20211003190604_7549.pdf; Height: 14.1mm; Manufacturer_Part_Number: DG142V-5.08-02P
footprint DG142V-5.08-02P; pin to pad 1>1+3 2>2+4
pins: 1, 2
text: КОНТ; ЦЕПЬ

## DG142V-5.08-03P
designator X?
Connector; Manufacturer_Name: Degson; Manufacturer_Part_Number: DG142V-5.08-02P; Datasheet Link: https://oss.degson.com/upload/pdf/20211003/20211003190604_7549.pdf; Height: 14.1mm
footprint DG142V-5.08-03P; pin to pad 1>1+4 2>2+5 3>3+6
pins: 1, 2, 3
text: КОНТ; ЦЕПЬ

## DG142V-5.08-03P_1
designator X?, comment DG142V-5.08-03P
Connector; Manufacturer_Name: Degson; Manufacturer_Part_Number: DG142V-5.08-02P; Datasheet Link: https://oss.degson.com/upload/pdf/20211003/20211003190604_7549.pdf; Height: 14.1mm
footprint DG142V-5.08-03P; pin to pad 1>1+4 2>2+5 3>3+6
pins: 1, 2, 3

## DG142V-5.08-04P
designator X?
Connector; Manufacturer_Name: Degson; Manufacturer_Part_Number: DG142V-5.08-02P; Datasheet Link: https://oss.degson.com/upload/pdf/20211003/20211003190604_7549.pdf; Height: 14.1mm
footprint DG142V-5.08-04P; pin to pad 1>1+5 2>2+6 3>3+7 4>4+8
pins: 1, 2, 3, 4
text: КОНТ; ЦЕПЬ

## DG142V-5.08-04P_1
designator X?, comment DG142V-5.08-04P
Connector; Manufacturer_Name: Degson; Manufacturer_Part_Number: DG142V-5.08-02P; Datasheet Link: https://oss.degson.com/upload/pdf/20211003/20211003190604_7549.pdf; Height: 14.1mm
footprint DG142V-5.08-04P; pin to pad 1>1+5 2>2+6 3>3+7 4>4+8
pins: 1, 2, 3, 4

## DG142V-5.08-06P
designator X?
Connector; Manufacturer_Name: Degson; Datasheet Link: https://oss.degson.com/upload/pdf/20211003/20211003190604_7549.pdf; Height: 14.1mm; Manufacturer_Part_Number: DG142V-5.08-06P
footprint DG142V-5.08-06P (Footprint not found); pin to pad 1>1+9 2>2+10 3>3+11 4>4+12 5>5+13 6>6+14
pins: 1, 2, 3, 4, 5, 6
text: КОНТ; ЦЕПЬ

## DG142V-5.08-08P
designator X?
Connector; Manufacturer_Name: Degson; Manufacturer_Part_Number: DG142V-5.08-02P; Datasheet Link: https://oss.degson.com/upload/pdf/20211003/20211003190604_7549.pdf; Height: 14.1mm
footprint DG142V-5.08-08P; pin to pad 1>1+9 2>2+10 3>3+11 4>4+12 5>5+13 6>6+14 7>7+15 8>8+16
pins: 1, 2, 3, 4, 5, 6, 7, 8
text: КОНТ; ЦЕПЬ

## DG142V-5.08-08P_1
designator X?, comment DG142V-5.08-08P
Connector; Manufacturer_Name: Degson; Manufacturer_Part_Number: DG142V-5.08-02P; Datasheet Link: https://oss.degson.com/upload/pdf/20211003/20211003190604_7549.pdf; Height: 14.1mm
footprint DG142V-5.08-08P; pin to pad 1>1+9 2>2+10 3>3+11 4>4+12 5>5+13 6>6+14 7>7+15 8>8+16
pins: 1, 2, 3, 4, 5, 6, 7, 8

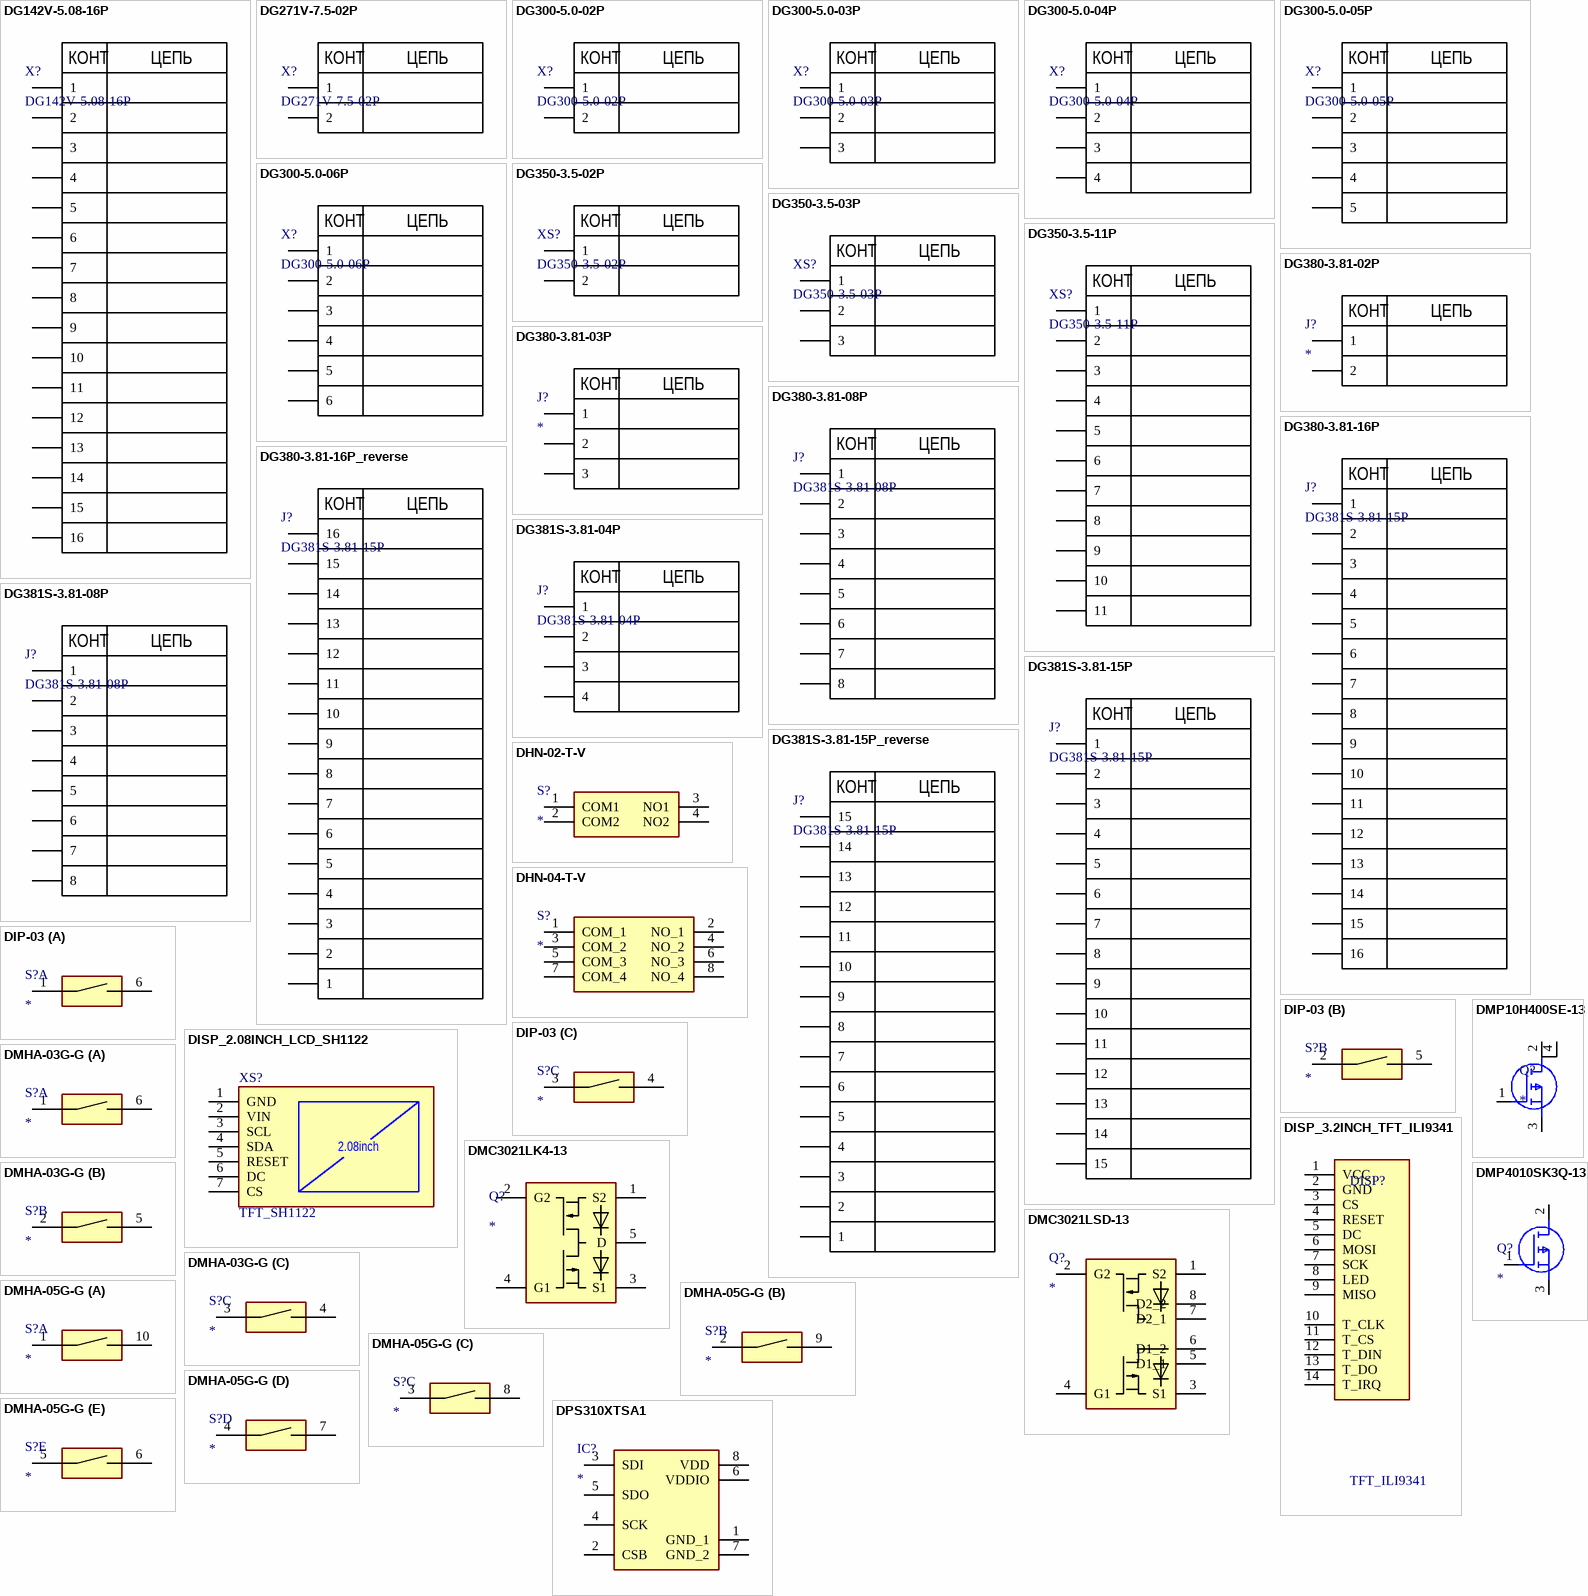
[diagram p13: symbols DG142V-5.08-16P to DPS310XTSA1]

## DG142V-5.08-16P
designator X?
Connector; Manufacturer_Name: Degson; Datasheet Link: https://oss.degson.com/upload/pdf/20211003/20211003190604_7549.pdf; Height: 14.1mm; Manufacturer_Part_Number: DG142V-5.08-16P
footprint DG142V-5.08-16P; pin to pad 1>1+17 2>2+18 3>3+19 4>4+20 5>5+21 6>6+22 7>7+23 8>8+24 9>9+25 10>10+26 11>11+27 12>12+28 13>13+29 14>14+30 15>15+31 16>16+32
pins: 1, 2, 3, 4, 5, 6, 7, 8, 9, 10, 11, 12, 13, 14, 15, 16
text: КОНТ; ЦЕПЬ

## DG271V-7.5-02P
designator X?
Connector; Manufacturer_Name: DEGSON; Manufacturer_Part_Number: DG271V-7.5-02P
footprint DG271V-02P (Footprint not found)
pins: 1, 2
text: КОНТ; ЦЕПЬ

## DG300-5.0-02P
designator X?
Connector Screw Type; Manufacturer_Name: DEGSON; Datasheet Link: https://www.degson.com/content/details_552_879439.html; Manufacturer_Part_Number: DG300-5.0-02P
footprint DG300-5.0-02P (Footprint not found)
pins: 1, 2
text: КОНТ; ЦЕПЬ

## DG300-5.0-03P
designator X?
Connector Screw Type; Manufacturer_Name: DEGSON; Datasheet Link: https://www.degson.com/content/details_552_879439.html; Manufacturer_Part_Number: DG300-5.0-03P
footprint DG300-5.0-03P (Footprint not found)
pins: 1, 2, 3
text: КОНТ; ЦЕПЬ

## DG300-5.0-04P
designator X?
Connector Screw Type; Manufacturer_Name: DEGSON; Datasheet Link: https://www.degson.com/content/details_552_879439.html; Manufacturer_Part_Number: DG300-5.0-04P
footprint DG300-5.0-04P
pins: 1, 2, 3, 4
text: КОНТ; ЦЕПЬ

## DG300-5.0-05P
designator X?
Connector Screw Type; Manufacturer_Name: DEGSON; Datasheet Link: https://www.degson.com/content/details_552_879439.html; Manufacturer_Part_Number: DG300-5.0-05P
footprint DG300-5.0-05P (Footprint not found)
pins: 1, 2, 3, 4, 5
text: КОНТ; ЦЕПЬ

## DG300-5.0-06P
designator X?
Connector Screw Type; Manufacturer_Name: DEGSON; Datasheet Link: https://www.degson.com/content/details_552_879439.html; Manufacturer_Part_Number: DG300-5.0-06P
footprint DG300-5.0-06P
pins: 1, 2, 3, 4, 5, 6
text: КОНТ; ЦЕПЬ

## DG350-3.5-02P
designator XS?
Connector, Screw Type; Manufacturer_Name: Degson; Datasheet Link: https://www.degson.com/index.php?a=downloadFile&id=1097383&name=%27ZmlsZTQ=%27&lang=en; Height: 14.26mm; Manufacturer_Part_Number: DG350-3.5-02P
footprint DG350-3.5-02P (Footprint not found)
pins: 1, 2
text: КОНТ; ЦЕПЬ

## DG350-3.5-03P
designator XS?
Connector Screw Type; Manufacturer_Name: Degson; Datasheet Link: https://www.degson.com/index.php?a=downloadFile&id=1097383&name=%27ZmlsZTQ=%27&lang=en; Height: 14.26mm; Manufacturer_Part_Number: DG350-3.5-03P
footprint DG350-3.5-03P (Footprint not found)
pins: 1, 2, 3
text: КОНТ; ЦЕПЬ

## DG350-3.5-11P
designator XS?
Connector Screw Type; Manufacturer_Name: Degson; Datasheet Link: https://www.degson.com/index.php?a=downloadFile&id=1097383&name=%27ZmlsZTQ=%27&lang=en; Height: 14.26mm; Manufacturer_Part_Number: DG350-3.5-11P
footprint DG350-3.5-11P (Footprint not found)
pins: 1, 2, 3, 4, 5, 6, 7, 8, 9, 10, 11
text: КОНТ; ЦЕПЬ

## DG380-3.81-02P
designator J?
Connector Screw Type; Manufacturer_Name: Degson; Manufacturer_Part_Number: DG128-5.0-02P-14; Datasheet Link: https://www.degson.com/index.php?a=downloadFile&id=1097383&name=%27ZmlsZTQ=%27&lang=en; Height: 14.26mm
footprint DG380-3.81-02P
pins: 1, 2
text: КОНТ; ЦЕПЬ

## DG380-3.81-03P
designator J?
Connector Screw Type; Manufacturer_Name: Degson; Manufacturer_Part_Number: DG128-5.0-02P-14; Datasheet Link: https://www.degson.com/index.php?a=downloadFile&id=1097383&name=%27ZmlsZTQ=%27&lang=en; Height: 14.26mm
footprint DG380-3.81-03P
pins: 1, 2, 3
text: КОНТ; ЦЕПЬ

## DG380-3.81-08P
designator J?, comment DG381S-3.81-08P
Connector Screw Type; Manufacturer_Name: Degson; Manufacturer_Part_Number: DG381S-3.81-15P; Datasheet Link: https://www.degson.com/index.php?a=downloadFile&id=1097383&name=%27ZmlsZTQ=%27&lang=en; Height: 14.26mm
footprint DG380-3.81-08P
pins: 1, 2, 3, 4, 5, 6, 7, 8
text: КОНТ; ЦЕПЬ

## DG380-3.81-16P
designator J?, comment DG381S-3.81-15P
Connector Screw Type; Manufacturer_Name: Degson; Datasheet Link: https://www.degson.com/index.php?a=downloadFile&id=1097383&name=%27ZmlsZTQ=%27&lang=en; Height: 14.26mm; Manufacturer_Part_Number: DG381S-3.81-15P
footprint DG380-3.81-16P (Footprint not found)
pins: 1, 2, 3, 4, 5, 6, 7, 8, 9, 10, 11, 12, 13, 14, 15, 16
text: КОНТ; ЦЕПЬ